# Altium integrated library Xilinx PLD XC9500XL.IntLib: 85 symbols (part 3 of 5)
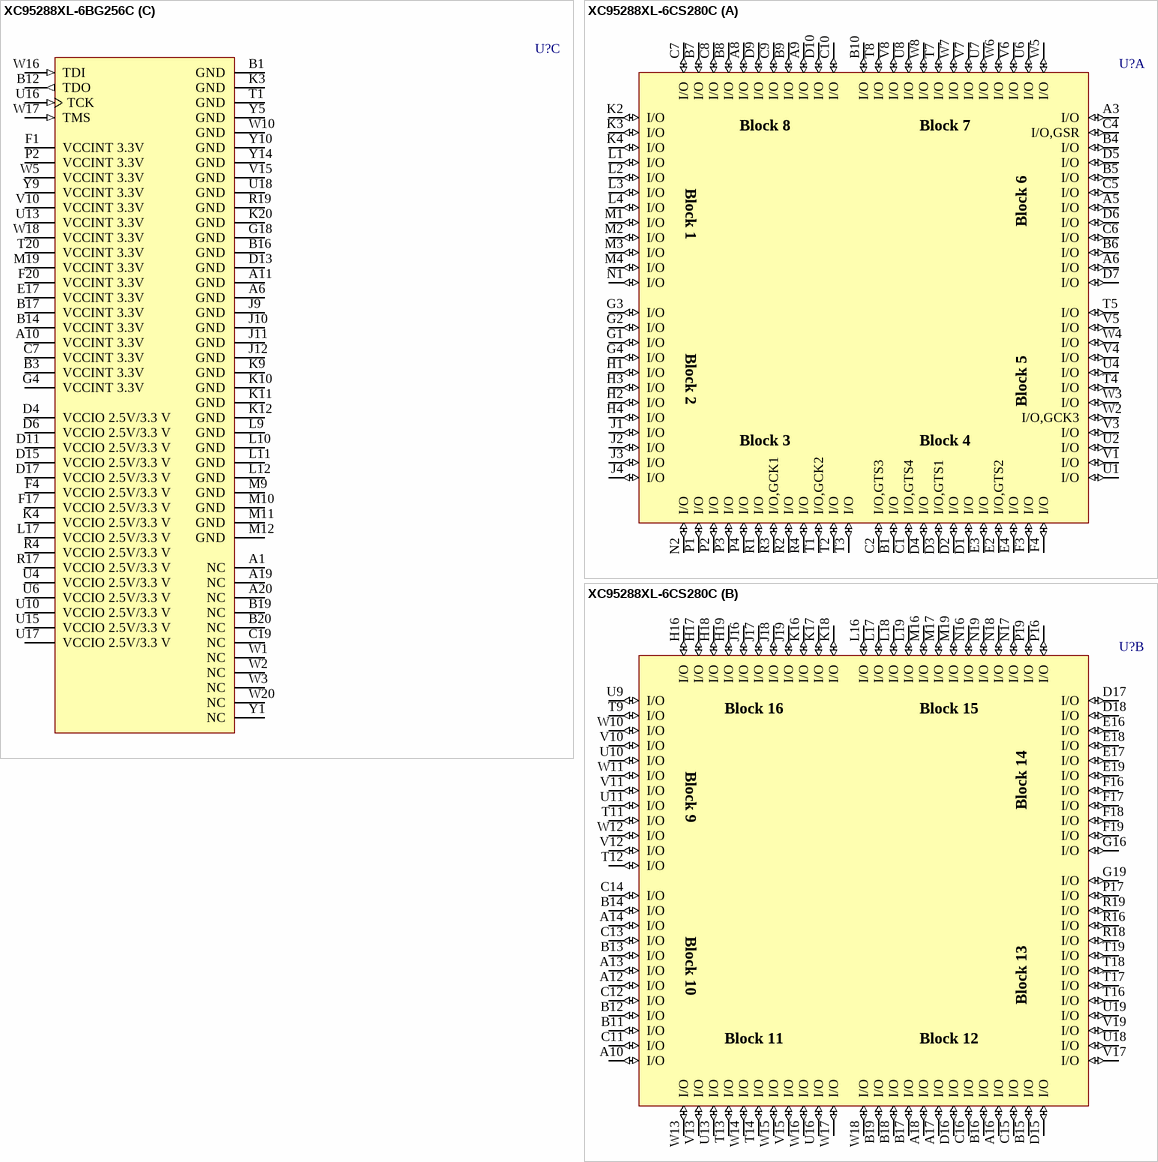
[diagram p35: symbols XC95288XL-6BG256C to XC95288XL-6CS280C]

## XC95288XL-6BG256C
designator U?
FastFLASH XC900XL, 3.3V High-Performance CPLD with 288 Macrocells, 256-Ball BGA, Commercial Grade; PackageDocument: ver1.1, Apr-2001; Note: BGA package contains 16 extra balls (Grounded); Published: 17-Jul-2002; DatasheetDocument: ver1.7, Aug-2003; PackageReference: BG256TE; Publisher: Altium Limited
footprint BG256TE (272-Ball Plastic Ball Grid Array (Thermally Enhanced BG256))
3D model XC95288XL-BG256TE (272-Ball Plastic Ball Grid Array (Thermally Enhanced BG256))
signal-integrity model XC95288XL_BG256 (XC9500XL)
part A pins: A2 I/O,GSR (io), A3 I/O (io), A4 I/O (io), A5 I/O (io), A7 I/O (io), A8 I/O (io), A9 I/O (io), B2 I/O (io), B4 I/O (io), B5 I/O (io), B6 I/O (io), B7 I/O (io), B8 I/O (io), B9 I/O (io), C1 I/O,GTS1 (io), C2 I/O,GTS3 (io), C3 I/O (io), C4 I/O (io), C5 I/O (io), C6 I/O (io), C8 I/O (io), C9 I/O (io), D1 I/O (io), D2 I/O (io), D3 I/O,GTS4 (io), D5 I/O (io), D7 I/O (io), D8 I/O (io), D9 I/O (io), E1 I/O,GTS2 (io), E2 I/O (io), E3 I/O (io), E4 I/O (io), F2 I/O (io), F3 I/O (io), G1 I/O (io), G2 I/O (io), G3 I/O (io), H1 I/O (io), H2 I/O (io), H3 I/O (io), H4 I/O (io), J1 I/O (io), J2 I/O (io), J3 I/O (io), J4 I/O (io), K1 I/O (io), K2 I/O (io), L1 I/O (io), L2 I/O (io), L3 I/O (io), L4 I/O (io), M1 I/O (io), M2 I/O (io), M3 I/O (io), M4 I/O (io), N1 I/O (io), N2 I/O (io), N3 I/O (io), N4 I/O (io), P1 I/O (io), P3 I/O (io), P4 I/O (io), R1 I/O (io), R2 I/O (io), R3 I/O (io), T2 I/O,GCK1 (io), T3 I/O (io), T4 I/O (io), U1 I/O (io), U2 I/O,GCK2 (io), U3 I/O (io), U5 I/O (io), U7 I/O (io), U8 I/O (io), U9 I/O (io), V1 I/O (io), V2 I/O (io), V3 I/O (io), V4 I/O (io), V5 I/O (io), V6 I/O (io), V7 I/O (io), V8 I/O (io), V9 I/O (io), W4 I/O,GCK3 (io), W6 I/O (io), W7 I/O (io), W8 I/O (io), W9 I/O (io), Y2 I/O (io), Y3 I/O (io), Y4 I/O (io), Y6 I/O (io), Y7 I/O (io), Y8 I/O (io)
part B pins: A12 I/O (io), A13 I/O (io), A14 I/O (io), A15 I/O (io), A16 I/O (io), A17 I/O (io), A18 I/O (io), B10 I/O (io), B11 I/O (io), B13 I/O (io), B15 I/O (io), B18 I/O (io), C10 I/O (io), C11 I/O (io), C12 I/O (io), C13 I/O (io), C14 I/O (io), C15 I/O (io), C16 I/O (io), C17 I/O (io), C18 I/O (io), C20 I/O (io), D10 I/O (io), D12 I/O (io), D14 I/O (io), D16 I/O (io), D18 I/O (io), D19 I/O (io), D20 I/O (io), E18 I/O (io), E19 I/O (io), E20 I/O (io), F18 I/O (io), F19 I/O (io), G17 I/O (io), G19 I/O (io), G20 I/O (io), H17 I/O (io), H18 I/O (io), H19 I/O (io), H20 I/O (io), J17 I/O (io), J18 I/O (io), J19 I/O (io), J20 I/O (io), K17 I/O (io), K18 I/O (io), K19 I/O (io), L18 I/O (io), L19 I/O (io), L20 I/O (io), M17 I/O (io), M18 I/O (io), M20 I/O (io), N17 I/O (io), N18 I/O (io), N19 I/O (io), N20 I/O (io), P17 I/O (io), P18 I/O (io), P19 I/O (io), P20 I/O (io), R18 I/O (io), R20 I/O (io), T17 I/O (io), T18 I/O (io), T19 I/O (io), U11 I/O (io), U12 I/O (io), U14 I/O (io), U19 I/O (io), U20 I/O (io), V11 I/O (io), V12 I/O (io), V13 I/O (io), V14 I/O (io), V16 I/O (io), V17 I/O (io), V18 I/O (io), V19 I/O (io), V20 I/O (io), W11 I/O (io), W12 I/O (io), W13 I/O (io), W14 I/O (io), W15 I/O (io), W19 I/O (io), Y11 I/O (io), Y12 I/O (io), Y13 I/O (io), Y15 I/O (io), Y16 I/O (io), Y17 I/O (io), Y18 I/O (io), Y19 I/O (io), Y20 I/O (io)
part C pins: A1 NC, A6 GND (power), A10 VCCINT 3.3V (power), A11 GND (power), A19 NC, A20 NC, B1 GND (power), B3 VCCINT 3.3V (power), B12 TDO (out), B14 VCCINT 3.3V (power), B16 GND (power), B17 VCCINT 3.3V (power), B19 NC, B20 NC, C7 VCCINT 3.3V (power), C19 NC, D4 VCCIO 2.5V/3.3 V (power), D6 VCCIO 2.5V/3.3 V (power), D11 VCCIO 2.5V/3.3 V (power), D13 GND (power), D15 VCCIO 2.5V/3.3 V (power), D17 VCCIO 2.5V/3.3 V (power), E17 VCCINT 3.3V (power), F1 VCCINT 3.3V (power), F4 VCCIO 2.5V/3.3 V (power), F17 VCCIO 2.5V/3.3 V (power), F20 VCCINT 3.3V (power), G4 VCCINT 3.3V (power), G18 GND (power), J9 GND (power), J10 GND (power), J11 GND (power), J12 GND (power), K3 GND (power), K4 VCCIO 2.5V/3.3 V (power), K9 GND (power), K10 GND (power), K11 GND (power), K12 GND (power), K20 GND (power), L9 GND (power), L10 GND (power), L11 GND (power), L12 GND (power), L17 VCCIO 2.5V/3.3 V (power), M9 GND (power), M10 GND (power), M11 GND (power), M12 GND (power), M19 VCCINT 3.3V (power), P2 VCCINT 3.3V (power), R4 VCCIO 2.5V/3.3 V (power), R17 VCCIO 2.5V/3.3 V (power), R19 GND (power), T1 GND (power), T20 VCCINT 3.3V (power), U4 VCCIO 2.5V/3.3 V (power), U6 VCCIO 2.5V/3.3 V (power), U10 VCCIO 2.5V/3.3 V (power), U13 VCCINT 3.3V (power), U15 VCCIO 2.5V/3.3 V (power), U16 TCK (in), U17 VCCIO 2.5V/3.3 V (power), U18 GND (power), V10 VCCINT 3.3V (power), V15 GND (power), W1 NC, W2 NC, W3 NC, W5 VCCINT 3.3V (power), W10 GND (power), W16 TDI (in), W17 TMS (in), W18 VCCINT 3.3V (power), W20 NC, Y1 NC, Y5 GND (power), Y9 VCCINT 3.3V (power), Y10 GND (power), Y14 GND (power)
part A text: Block 8; Block 7; Block 1; Block 6; Block 2; Block 5; Block 3; Block 4
part B text: Block 16; Block 15; Block 9; Block 14; Block 10; Block 13; Block 11; Block 12

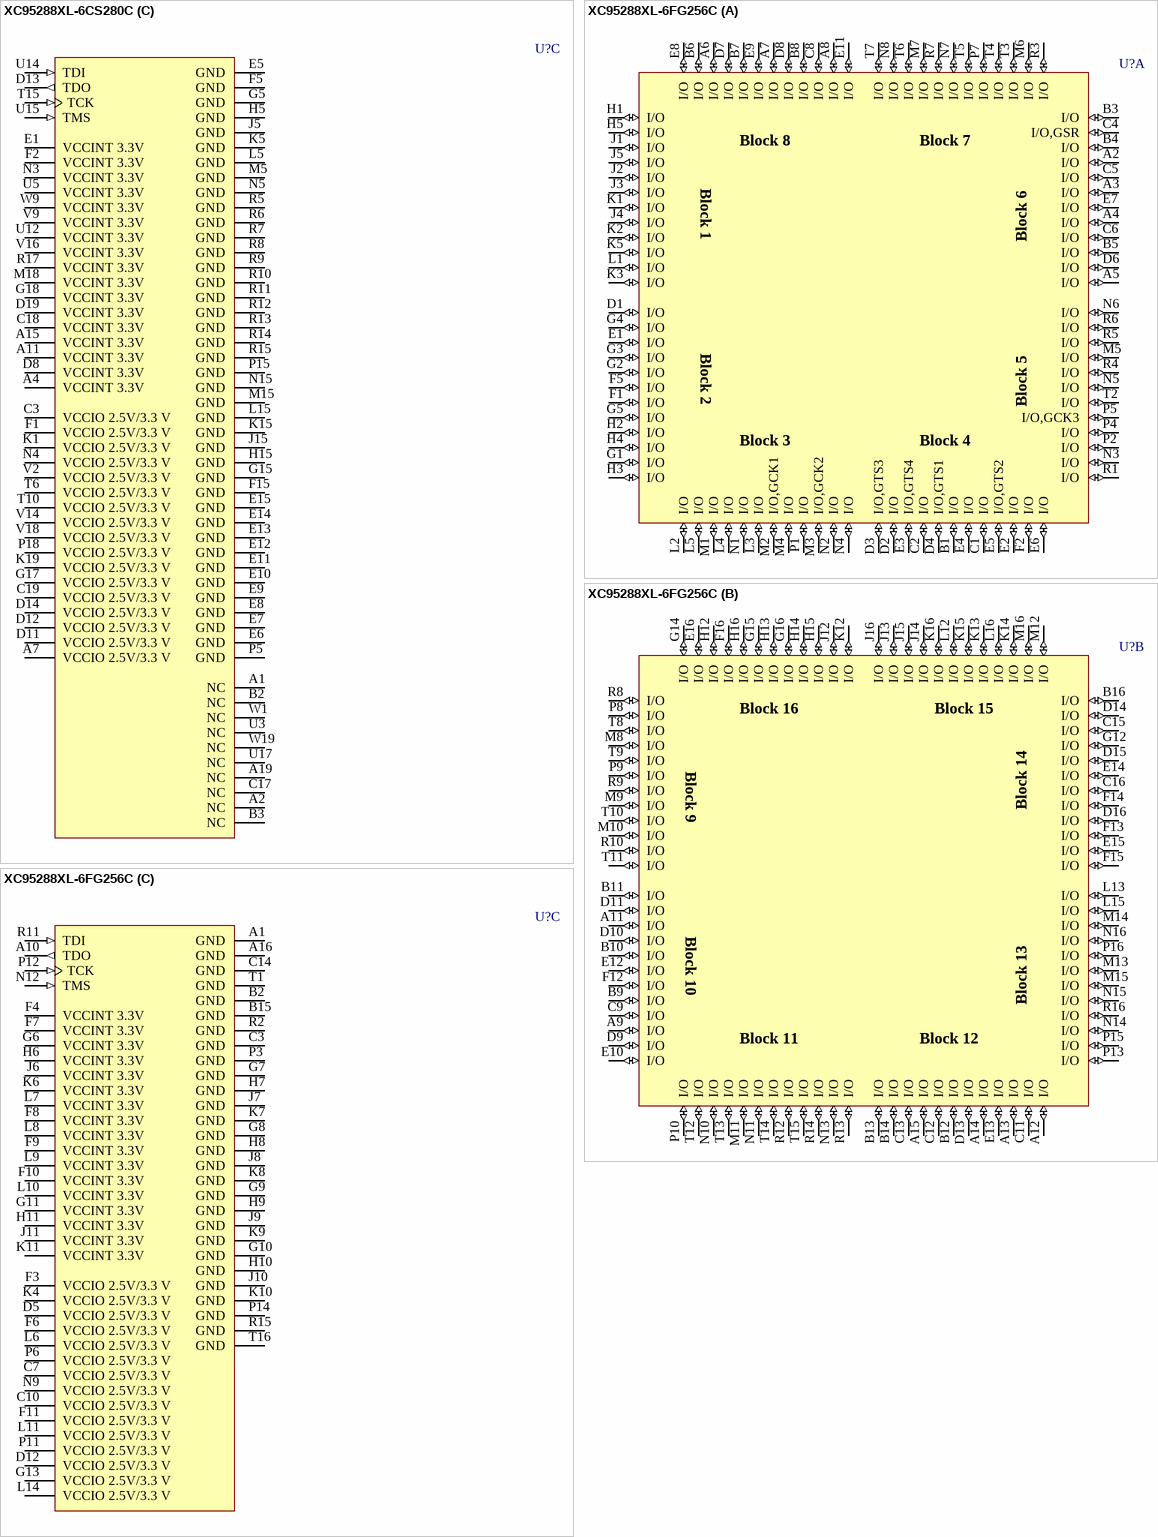
[diagram p17: symbols XC95288XL-6CS280C to XC95288XL-6FG256C]

## XC95288XL-6CS280C
designator U?
FastFLASH XC900XL, 3.3V High-Performance CPLD with 288 Macrocells, 280-Ball CSBGA, Commercial Grade; PackageDocument: ver1.0, Jun-2000; Published: 17-Jul-2002; LatestRevisionDate: 17-Sep-2003; LatestRevisionNote: PCB Footprint pad diameter reduced to 0.4mm; DatasheetDocument: ver1.7, Aug-2003; PackageReference: CS280; Publisher: Altium Limited; Code_JEDEC: MO-216-BAL-1 (Depopulated)
footprint CS280 (280-Ball Chip Scale Ball Grid Array (CS280))
3D model XC95288XL-CS280 (280-Ball Chip Scale Ball Grid Array (CS280))
signal-integrity model XC95288XL_CS280 (XC9500XL)
part A pins: A3 I/O (io), A5 I/O (io), A6 I/O (io), A8 I/O (io), A9 I/O (io), B1 I/O (io), B4 I/O (io), B5 I/O (io), B6 I/O (io), B7 I/O (io), B8 I/O (io), B9 I/O (io), B10 I/O (io), C1 I/O,GTS4 (io), C2 I/O,GTS3 (io), C4 I/O,GSR (io), C5 I/O (io), C6 I/O (io), C7 I/O (io), C8 I/O (io), C9 I/O (io), C10 I/O (io), D1 I/O (io), D2 I/O (io), D3 I/O,GTS1 (io), D4 I/O (io), D5 I/O (io), D6 I/O (io), D7 I/O (io), D9 I/O (io), D10 I/O (io), E2 I/O,GTS2 (io), E3 I/O (io), E4 I/O (io), F3 I/O (io), F4 I/O (io), G1 I/O (io), G2 I/O (io), G3 I/O (io), G4 I/O (io), H1 I/O (io), H2 I/O (io), H3 I/O (io), H4 I/O (io), J1 I/O (io), J2 I/O (io), J3 I/O (io), J4 I/O (io), K2 I/O (io), K3 I/O (io), K4 I/O (io), L1 I/O (io), L2 I/O (io), L3 I/O (io), L4 I/O (io), M1 I/O (io), M2 I/O (io), M3 I/O (io), M4 I/O (io), N1 I/O (io), N2 I/O (io), P1 I/O (io), P2 I/O (io), P3 I/O (io), P4 I/O (io), R1 I/O (io), R2 I/O (io), R3 I/O,GCK1 (io), R4 I/O (io), T1 I/O,GCK2 (io), T2 I/O (io), T3 I/O (io), T4 I/O (io), T5 I/O (io), T7 I/O (io), T8 I/O (io), U1 I/O (io), U2 I/O (io), U4 I/O (io), U6 I/O (io), U7 I/O (io), U8 I/O (io), V1 I/O (io), V3 I/O (io), V4 I/O (io), V5 I/O (io), V6 I/O (io), V7 I/O (io), V8 I/O (io), W2 I/O,GCK3 (io), W3 I/O (io), W4 I/O (io), W5 I/O (io), W6 I/O (io), W7 I/O (io), W8 I/O (io)
part B pins: A10 I/O (io), A12 I/O (io), A13 I/O (io), A14 I/O (io), A16 I/O (io), A17 I/O (io), A18 I/O (io), B11 I/O (io), B12 I/O (io), B13 I/O (io), B14 I/O (io), B15 I/O (io), B16 I/O (io), B17 I/O (io), B18 I/O (io), B19 I/O (io), C11 I/O (io), C12 I/O (io), C13 I/O (io), C14 I/O (io), C15 I/O (io), C16 I/O (io), D15 I/O (io), D16 I/O (io), D17 I/O (io), D18 I/O (io), E16 I/O (io), E17 I/O (io), E18 I/O (io), E19 I/O (io), F16 I/O (io), F17 I/O (io), F18 I/O (io), F19 I/O (io), G16 I/O (io), G19 I/O (io), H16 I/O (io), H17 I/O (io), H18 I/O (io), H19 I/O (io), J16 I/O (io), J17 I/O (io), J18 I/O (io), J19 I/O (io), K16 I/O (io), K17 I/O (io), K18 I/O (io), L16 I/O (io), L17 I/O (io), L18 I/O (io), L19 I/O (io), M16 I/O (io), M17 I/O (io), M19 I/O (io), N16 I/O (io), N17 I/O (io), N18 I/O (io), N19 I/O (io), P16 I/O (io), P17 I/O (io), P19 I/O (io), R16 I/O (io), R18 I/O (io), R19 I/O (io), T9 I/O (io), T11 I/O (io), T12 I/O (io), T13 I/O (io), T14 I/O (io), T16 I/O (io), T17 I/O (io), T18 I/O (io), T19 I/O (io), U9 I/O (io), U10 I/O (io), U11 I/O (io), U13 I/O (io), U16 I/O (io), U18 I/O (io), U19 I/O (io), V10 I/O (io), V11 I/O (io), V12 I/O (io), V13 I/O (io), V15 I/O (io), V17 I/O (io), V19 I/O (io), W10 I/O (io), W11 I/O (io), W12 I/O (io), W13 I/O (io), W14 I/O (io), W15 I/O (io), W16 I/O (io), W17 I/O (io), W18 I/O (io)
part C pins: A1 NC, A2 NC, A4 VCCINT 3.3V (power), A7 VCCIO 2.5V/3.3 V (power), A11 VCCINT 3.3V (power), A15 VCCINT 3.3V (power), A19 NC, B2 NC, B3 NC, C3 VCCIO 2.5V/3.3 V (power), C17 NC, C18 VCCINT 3.3V (power), C19 VCCIO 2.5V/3.3 V (power), D8 VCCINT 3.3V (power), D11 VCCIO 2.5V/3.3 V (power), D12 VCCIO 2.5V/3.3 V (power), D13 TDO (out), D14 VCCIO 2.5V/3.3 V (power), D19 VCCINT 3.3V (power), E1 VCCINT 3.3V (power), E5 GND (power), E6 GND (power), E7 GND (power), E8 GND (power), E9 GND (power), E10 GND (power), E11 GND (power), E12 GND (power), E13 GND (power), E14 GND (power), E15 GND (power), F1 VCCIO 2.5V/3.3 V (power), F2 VCCINT 3.3V (power), F5 GND (power), F15 GND (power), G5 GND (power), G15 GND (power), G17 VCCIO 2.5V/3.3 V (power), G18 VCCINT 3.3V (power), H5 GND (power), H15 GND (power), J5 GND (power), J15 GND (power), K1 VCCIO 2.5V/3.3 V (power), K5 GND (power), K15 GND (power), K19 VCCIO 2.5V/3.3 V (power), L5 GND (power), L15 GND (power), M5 GND (power), M15 GND (power), M18 VCCINT 3.3V (power), N3 VCCINT 3.3V (power), N4 VCCIO 2.5V/3.3 V (power), N5 GND (power), N15 GND (power), P5 GND (power), P15 GND (power), P18 VCCIO 2.5V/3.3 V (power), R5 GND (power), R6 GND (power), R7 GND (power), R8 GND (power), R9 GND (power), R10 GND (power), R11 GND (power), R12 GND (power), R13 GND (power), R14 GND (power), R15 GND (power), R17 VCCINT 3.3V (power), T6 VCCIO 2.5V/3.3 V (power), T10 VCCIO 2.5V/3.3 V (power), T15 TCK (in), U3 NC, U5 VCCINT 3.3V (power), U12 VCCINT 3.3V (power), U14 TDI (in), U15 TMS (in), U17 NC, V2 VCCIO 2.5V/3.3 V (power), V9 VCCINT 3.3V (power), V14 VCCIO 2.5V/3.3 V (power), V16 VCCINT 3.3V (power), V18 VCCIO 2.5V/3.3 V (power), W1 NC, W9 VCCINT 3.3V (power), W19 NC
part A text: Block 8; Block 7; Block 1; Block 6; Block 2; Block 5; Block 3; Block 4
part B text: Block 16; Block 15; Block 9; Block 14; Block 10; Block 13; Block 11; Block 12

## XC95288XL-6FG256C
designator U?
FastFLASH XC900XL, 3.3V High-Performance CPLD with 288 Macrocells, 256-Ball FBGA, Commercial Grade; PackageDocument: ver1.1, Apr-2001; Published: 17-Jul-2002; DatasheetDocument: ver1.7, Aug-2003; PackageReference: FG256; Publisher: Altium Limited; Code_JEDEC: MO-151-AAF-1; Code_IPC: PBGA 17X17 FE256
footprint FG256 (256-Ball Fine Pitch Ball Grid Array (FG256))
3D model XC95288XL-FG256 (256-Ball Fine Pitch Ball Grid Array (FG256))
signal-integrity model XC95288XL_FG256 (XC9500XL)
part A pins: A2 I/O (io), A3 I/O (io), A4 I/O (io), A5 I/O (io), A6 I/O (io), A7 I/O (io), A8 I/O (io), B1 I/O (io), B3 I/O (io), B4 I/O (io), B5 I/O (io), B6 I/O (io), B7 I/O (io), B8 I/O (io), C1 I/O (io), C2 I/O (io), C4 I/O,GSR (io), C5 I/O (io), C6 I/O (io), C8 I/O (io), D1 I/O (io), D2 I/O (io), D3 I/O,GTS3 (io), D4 I/O,GTS1 (io), D6 I/O (io), D7 I/O (io), D8 I/O (io), E1 I/O (io), E2 I/O (io), E3 I/O,GTS4 (io), E4 I/O (io), E5 I/O,GTS2 (io), E6 I/O (io), E7 I/O (io), E8 I/O (io), E9 I/O (io), E11 I/O (io), F1 I/O (io), F2 I/O (io), F5 I/O (io), G1 I/O (io), G2 I/O (io), G3 I/O (io), G4 I/O (io), G5 I/O (io), H1 I/O (io), H2 I/O (io), H3 I/O (io), H4 I/O (io), H5 I/O (io), J1 I/O (io), J2 I/O (io), J3 I/O (io), J4 I/O (io), J5 I/O (io), K1 I/O (io), K2 I/O (io), K3 I/O (io), K5 I/O (io), L1 I/O (io), L2 I/O (io), L3 I/O (io), L4 I/O (io), L5 I/O (io), M1 I/O (io), M2 I/O,GCK1 (io), M3 I/O,GCK2 (io), M4 I/O (io), M5 I/O (io), M6 I/O (io), M7 I/O (io), N1 I/O (io), N2 I/O (io), N3 I/O (io), N4 I/O (io), N5 I/O (io), N6 I/O (io), N7 I/O (io), N8 I/O (io), P1 I/O (io), P2 I/O (io), P4 I/O (io), P5 I/O,GCK3 (io), P7 I/O (io), R1 I/O (io), R3 I/O (io), R4 I/O (io), R5 I/O (io), R6 I/O (io), R7 I/O (io), T2 I/O (io), T3 I/O (io), T4 I/O (io), T5 I/O (io), T6 I/O (io), T7 I/O (io)
part B pins: A9 I/O (io), A11 I/O (io), A12 I/O (io), A13 I/O (io), A14 I/O (io), A15 I/O (io), B9 I/O (io), B10 I/O (io), B11 I/O (io), B12 I/O (io), B13 I/O (io), B14 I/O (io), B16 I/O (io), C9 I/O (io), C11 I/O (io), C12 I/O (io), C13 I/O (io), C15 I/O (io), C16 I/O (io), D9 I/O (io), D10 I/O (io), D11 I/O (io), D13 I/O (io), D14 I/O (io), D15 I/O (io), D16 I/O (io), E10 I/O (io), E12 I/O (io), E13 I/O (io), E14 I/O (io), E15 I/O (io), E16 I/O (io), F12 I/O (io), F13 I/O (io), F14 I/O (io), F15 I/O (io), F16 I/O (io), G12 I/O (io), G14 I/O (io), G15 I/O (io), G16 I/O (io), H12 I/O (io), H13 I/O (io), H14 I/O (io), H15 I/O (io), H16 I/O (io), J12 I/O (io), J13 I/O (io), J14 I/O (io), J15 I/O (io), J16 I/O (io), K12 I/O (io), K13 I/O (io), K14 I/O (io), K15 I/O (io), K16 I/O (io), L12 I/O (io), L13 I/O (io), L15 I/O (io), L16 I/O (io), M8 I/O (io), M9 I/O (io), M10 I/O (io), M11 I/O (io), M12 I/O (io), M13 I/O (io), M14 I/O (io), M15 I/O (io), M16 I/O (io), N10 I/O (io), N11 I/O (io), N13 I/O (io), N14 I/O (io), N15 I/O (io), N16 I/O (io), P8 I/O (io), P9 I/O (io), P10 I/O (io), P13 I/O (io), P15 I/O (io), P16 I/O (io), R8 I/O (io), R9 I/O (io), R10 I/O (io), R12 I/O (io), R13 I/O (io), R14 I/O (io), R16 I/O (io), T8 I/O (io), T9 I/O (io), T10 I/O (io), T11 I/O (io), T12 I/O (io), T13 I/O (io), T14 I/O (io), T15 I/O (io)
part C pins: A1 GND (power), A10 TDO (out), A16 GND (power), B2 GND (power), B15 GND (power), C3 GND (power), C7 VCCIO 2.5V/3.3 V (power), C10 VCCIO 2.5V/3.3 V (power), C14 GND (power), D5 VCCIO 2.5V/3.3 V (power), D12 VCCIO 2.5V/3.3 V (power), F3 VCCIO 2.5V/3.3 V (power), F4 VCCINT 3.3V (power), F6 VCCIO 2.5V/3.3 V (power), F7 VCCINT 3.3V (power), F8 VCCINT 3.3V (power), F9 VCCINT 3.3V (power), F10 VCCINT 3.3V (power), F11 VCCIO 2.5V/3.3 V (power), G6 VCCINT 3.3V (power), G7 GND (power), G8 GND (power), G9 GND (power), G10 GND (power), G11 VCCINT 3.3V (power), G13 VCCIO 2.5V/3.3 V (power), H6 VCCINT 3.3V (power), H7 GND (power), H8 GND (power), H9 GND (power), H10 GND (power), H11 VCCINT 3.3V (power), J6 VCCINT 3.3V (power), J7 GND (power), J8 GND (power), J9 GND (power), J10 GND (power), J11 VCCINT 3.3V (power), K4 VCCIO 2.5V/3.3 V (power), K6 VCCINT 3.3V (power), K7 GND (power), K8 GND (power), K9 GND (power), K10 GND (power), K11 VCCINT 3.3V (power), L6 VCCIO 2.5V/3.3 V (power), L7 VCCINT 3.3V (power), L8 VCCINT 3.3V (power), L9 VCCINT 3.3V (power), L10 VCCINT 3.3V (power), L11 VCCIO 2.5V/3.3 V (power), L14 VCCIO 2.5V/3.3 V (power), N9 VCCIO 2.5V/3.3 V (power), N12 TMS (in), P3 GND (power), P6 VCCIO 2.5V/3.3 V (power), P11 VCCIO 2.5V/3.3 V (power), P12 TCK (in), P14 GND (power), R2 GND (power), R11 TDI (in), R15 GND (power), T1 GND (power), T16 GND (power)
part A text: Block 8; Block 7; Block 1; Block 6; Block 2; Block 5; Block 3; Block 4
part B text: Block 16; Block 15; Block 9; Block 14; Block 10; Block 13; Block 11; Block 12

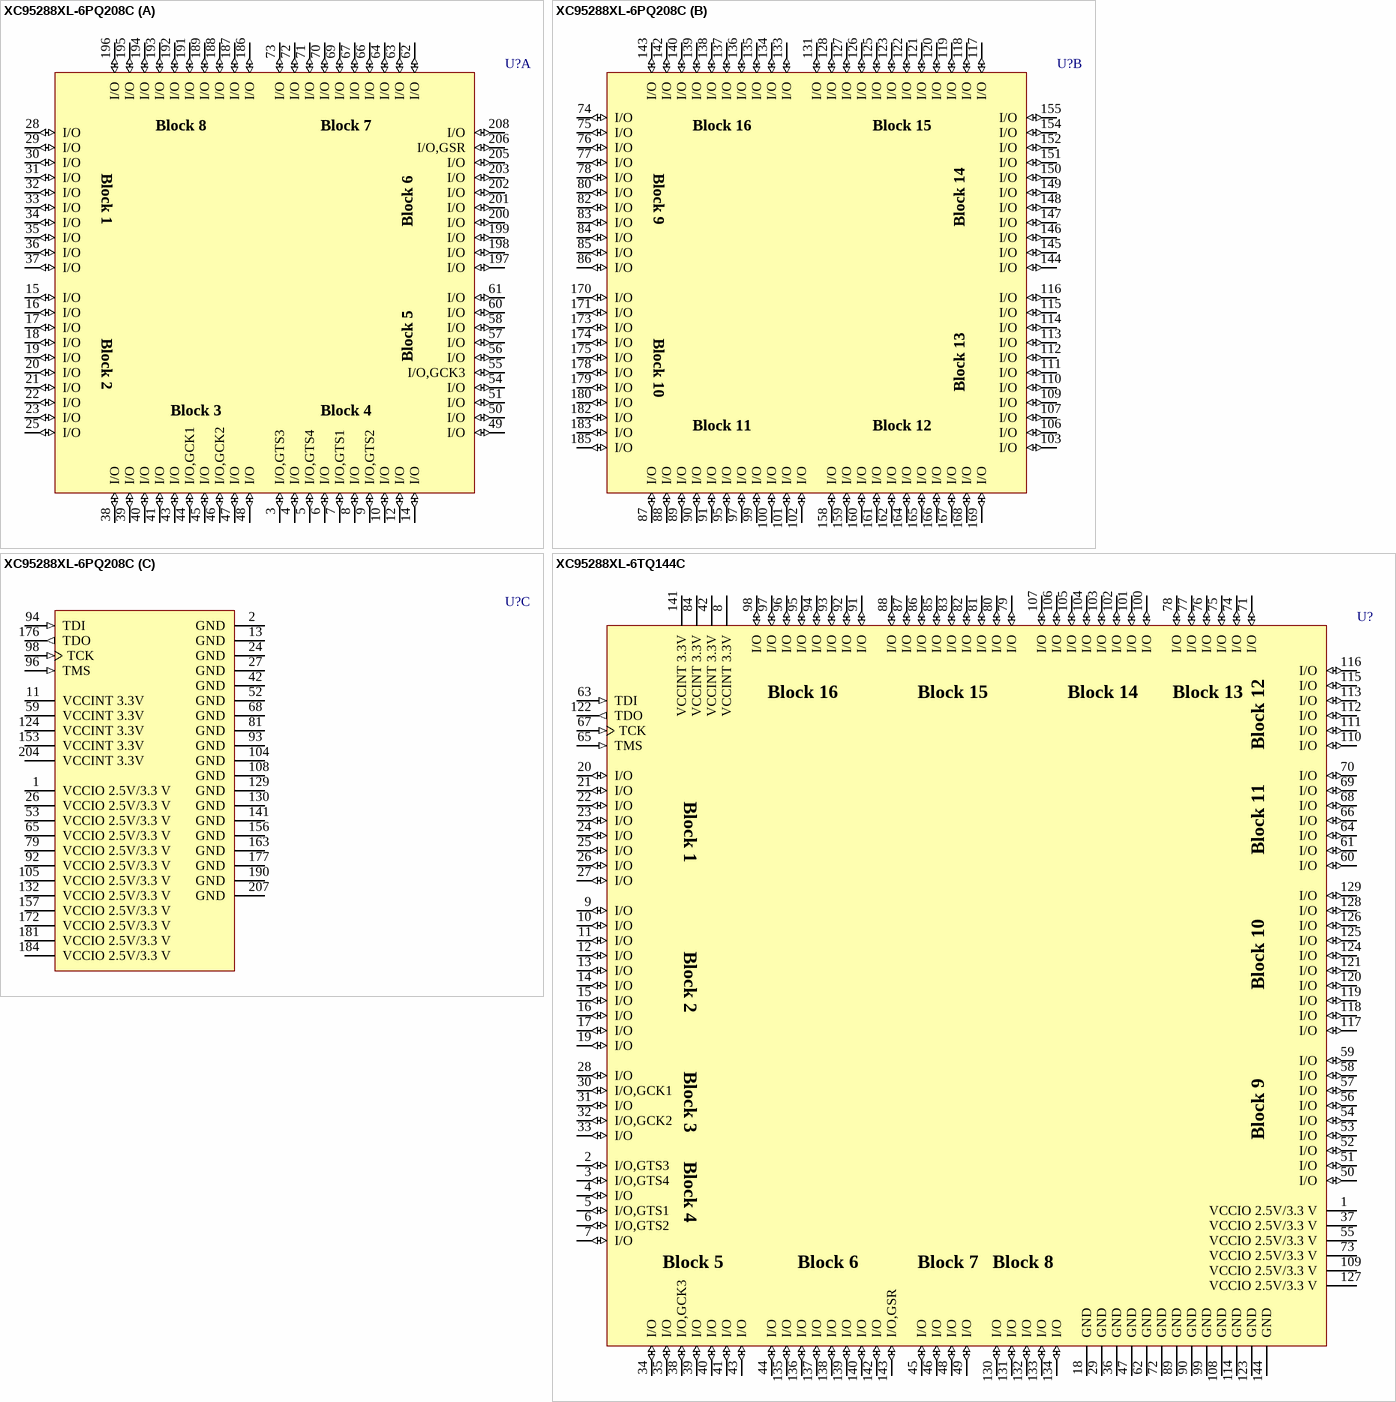
[diagram p18: symbols XC95288XL-6PQ208C to XC95288XL-6TQ144C]

## XC95288XL-6PQ208C
designator U?
FastFLASH XC900XL, 3.3V High-Performance CPLD with 288 Macrocells, 208-Pin PQFP, Commercial Grade; PackageDocument: ver1.1, Oct-2002; Published: 17-Jul-2002; DatasheetDocument: ver1.7, Aug-2003; PackageReference: PQ208; Publisher: Altium Limited; Code_JEDEC: MS-029-FA-1
footprint PQ208 (208-Pin Plastic Quad Flat Pack (PQ208))
3D model XC95288XL-PQ208 (208-Pin Plastic Quad Flat Pack (PQ208))
signal-integrity model XC95288XL_PQ208 (XC9500XL)
part A pins: 3 I/O,GTS3 (io), 4 I/O (io), 5 I/O,GTS4 (io), 6 I/O (io), 7 I/O,GTS1 (io), 8 I/O (io), 9 I/O,GTS2 (io), 10 I/O (io), 12 I/O (io), 14 I/O (io), 15 I/O (io), 16 I/O (io), 17 I/O (io), 18 I/O (io), 19 I/O (io), 20 I/O (io), 21 I/O (io), 22 I/O (io), 23 I/O (io), 25 I/O (io), 28 I/O (io), 29 I/O (io), 30 I/O (io), 31 I/O (io), 32 I/O (io), 33 I/O (io), 34 I/O (io), 35 I/O (io), 36 I/O (io), 37 I/O (io), 38 I/O (io), 39 I/O (io), 40 I/O (io), 41 I/O (io), 43 I/O (io), 44 I/O,GCK1 (io), 45 I/O (io), 46 I/O,GCK2 (io), 47 I/O (io), 48 I/O (io), 49 I/O (io), 50 I/O (io), 51 I/O (io), 54 I/O (io), 55 I/O,GCK3 (io), 56 I/O (io), 57 I/O (io), 58 I/O (io), 60 I/O (io), 61 I/O (io), 62 I/O (io), 63 I/O (io), 64 I/O (io), 66 I/O (io), 67 I/O (io), 69 I/O (io), 70 I/O (io), 71 I/O (io), 72 I/O (io), 73 I/O (io), 186 I/O (io), 187 I/O (io), 188 I/O (io), 189 I/O (io), 191 I/O (io), 192 I/O (io), 193 I/O (io), 194 I/O (io), 195 I/O (io), 196 I/O (io), 197 I/O (io), 198 I/O (io), 199 I/O (io), 200 I/O (io), 201 I/O (io), 202 I/O (io), 203 I/O (io), 205 I/O (io), 206 I/O,GSR (io), 208 I/O (io)
part B pins: 74 I/O (io), 75 I/O (io), 76 I/O (io), 77 I/O (io), 78 I/O (io), 80 I/O (io), 82 I/O (io), 83 I/O (io), 84 I/O (io), 85 I/O (io), 86 I/O (io), 87 I/O (io), 88 I/O (io), 89 I/O (io), 90 I/O (io), 91 I/O (io), 95 I/O (io), 97 I/O (io), 99 I/O (io), 100 I/O (io), 101 I/O (io), 102 I/O (io), 103 I/O (io), 106 I/O (io), 107 I/O (io), 109 I/O (io), 110 I/O (io), 111 I/O (io), 112 I/O (io), 113 I/O (io), 114 I/O (io), 115 I/O (io), 116 I/O (io), 117 I/O (io), 118 I/O (io), 119 I/O (io), 120 I/O (io), 121 I/O (io), 122 I/O (io), 123 I/O (io), 125 I/O (io), 126 I/O (io), 127 I/O (io), 128 I/O (io), 131 I/O (io), 133 I/O (io), 134 I/O (io), 135 I/O (io), 136 I/O (io), 137 I/O (io), 138 I/O (io), 139 I/O (io), 140 I/O (io), 142 I/O (io), 143 I/O (io), 144 I/O (io), 145 I/O (io), 146 I/O (io), 147 I/O (io), 148 I/O (io), 149 I/O (io), 150 I/O (io), 151 I/O (io), 152 I/O (io), 154 I/O (io), 155 I/O (io), 158 I/O (io), 159 I/O (io), 160 I/O (io), 161 I/O (io), 162 I/O (io), 164 I/O (io), 165 I/O (io), 166 I/O (io), 167 I/O (io), 168 I/O (io), 169 I/O (io), 170 I/O (io), 171 I/O (io), 173 I/O (io), 174 I/O (io), 175 I/O (io), 178 I/O (io), 179 I/O (io), 180 I/O (io), 182 I/O (io), 183 I/O (io), 185 I/O (io)
part C pins: 1 VCCIO 2.5V/3.3 V (power), 2 GND (power), 11 VCCINT 3.3V (power), 13 GND (power), 24 GND (power), 26 VCCIO 2.5V/3.3 V (power), 27 GND (power), 42 GND (power), 52 GND (power), 53 VCCIO 2.5V/3.3 V (power), 59 VCCINT 3.3V (power), 65 VCCIO 2.5V/3.3 V (power), 68 GND (power), 79 VCCIO 2.5V/3.3 V (power), 81 GND (power), 92 VCCIO 2.5V/3.3 V (power), 93 GND (power), 94 TDI (in), 96 TMS (in), 98 TCK (in), 104 GND (power), 105 VCCIO 2.5V/3.3 V (power), 108 GND (power), 124 VCCINT 3.3V (power), 129 GND (power), 130 GND (power), 132 VCCIO 2.5V/3.3 V (power), 141 GND (power), 153 VCCINT 3.3V (power), 156 GND (power), 157 VCCIO 2.5V/3.3 V (power), 163 GND (power), 172 VCCIO 2.5V/3.3 V (power), 176 TDO (out), 177 GND (power), 181 VCCIO 2.5V/3.3 V (power), 184 VCCIO 2.5V/3.3 V (power), 190 GND (power), 204 VCCINT 3.3V (power), 207 GND (power)
part A text: Block 8; Block 7; Block 1; Block 6; Block 2; Block 5; Block 3; Block 4
part B text: Block 16; Block 15; Block 9; Block 14; Block 10; Block 13; Block 11; Block 12

## XC95288XL-6TQ144C
designator U?
FastFLASH XC900XL, 3.3V High-Performance CPLD with 288 Macrocells, 144-Pin TQFP, Commercial Grade; PackageDocument: ver1.1, Oct-2002; Published: 17-Jul-2002; DatasheetDocument: ver1.7, Aug-2003; PackageReference: TQ144; Publisher: Altium Limited; Code_JEDEC: MS-026-BFB; Code_IPC: SQFP20X20-144
footprint TQ144 (144-Pin Thin Quad Flat Pack (TQ144))
3D model XC95288XL-TQ144 (144-Pin Thin Quad Flat Pack (TQ144))
signal-integrity model XC95288XL_TQ144 (XC9500XL)
pins: 1 VCCIO 2.5V/3.3 V (power), 2 I/O,GTS3 (io), 3 I/O,GTS4 (io), 4 I/O (io), 5 I/O,GTS1 (io), 6 I/O,GTS2 (io), 7 I/O (io), 8 VCCINT 3.3V (power), 9 I/O (io), 10 I/O (io), 11 I/O (io), 12 I/O (io), 13 I/O (io), 14 I/O (io), 15 I/O (io), 16 I/O (io), 17 I/O (io), 18 GND (power), 19 I/O (io), 20 I/O (io), 21 I/O (io), 22 I/O (io), 23 I/O (io), 24 I/O (io), 25 I/O (io), 26 I/O (io), 27 I/O (io), 28 I/O (io), 29 GND (power), 30 I/O,GCK1 (io), 31 I/O (io), 32 I/O,GCK2 (io), 33 I/O (io), 34 I/O (io), 35 I/O (io), 36 GND (power), 37 VCCIO 2.5V/3.3 V (power), 38 I/O,GCK3 (io), 39 I/O (io), 40 I/O (io), 41 I/O (io), 42 VCCINT 3.3V (power), 43 I/O (io), 44 I/O (io), 45 I/O (io), 46 I/O (io), 47 GND (power), 48 I/O (io), 49 I/O (io), 50 I/O (io), 51 I/O (io), 52 I/O (io), 53 I/O (io), 54 I/O (io), 55 VCCIO 2.5V/3.3 V (power), 56 I/O (io), 57 I/O (io), 58 I/O (io), 59 I/O (io), 60 I/O (io), 61 I/O (io), 62 GND (power), 63 TDI (in), 64 I/O (io), 65 TMS (in), 66 I/O (io), 67 TCK (in), 68 I/O (io), 69 I/O (io), 70 I/O (io), 71 I/O (io), 72 GND (power), 73 VCCIO 2.5V/3.3 V (power), 74 I/O (io), 75 I/O (io), 76 I/O (io), 77 I/O (io), 78 I/O (io), 79 I/O (io), 80 I/O (io), 81 I/O (io), 82 I/O (io), 83 I/O (io), 84 VCCINT 3.3V (power), 85 I/O (io), 86 I/O (io), 87 I/O (io), 88 I/O (io), 89 GND (power), 90 GND (power), 91 I/O (io), 92 I/O (io), 93 I/O (io), 94 I/O (io), 95 I/O (io), 96 I/O (io), 97 I/O (io), 98 I/O (io), 99 GND (power), 100 I/O (io), 101 I/O (io), 102 I/O (io), 103 I/O (io), 104 I/O (io), 105 I/O (io), 106 I/O (io), 107 I/O (io), 108 GND (power), 109 VCCIO 2.5V/3.3 V (power), 110 I/O (io), 111 I/O (io), 112 I/O (io), 113 I/O (io), 114 GND (power), 115 I/O (io), 116 I/O (io), 117 I/O (io), 118 I/O (io), 119 I/O (io), 120 I/O (io), 121 I/O (io), 122 TDO (out), 123 GND (power), 124 I/O (io), 125 I/O (io), 126 I/O (io), 127 VCCIO 2.5V/3.3 V (power), 128 I/O (io), 129 I/O (io), 130 I/O (io), 131 I/O (io), 132 I/O (io), 133 I/O (io), 134 I/O (io), 135 I/O (io), 136 I/O (io), 137 I/O (io), 138 I/O (io), 139 I/O (io), 140 I/O (io), 141 VCCINT 3.3V (power), 142 I/O (io), 143 I/O,GSR (io), 144 GND (power)
text: Block 16; Block 15; Block 14; Block 13; Block 12; Block 1; Block 11; Block 2; Block 10; Block 3; Block 9; Block 4; Block 5; Block 6; Block 7; Block 8

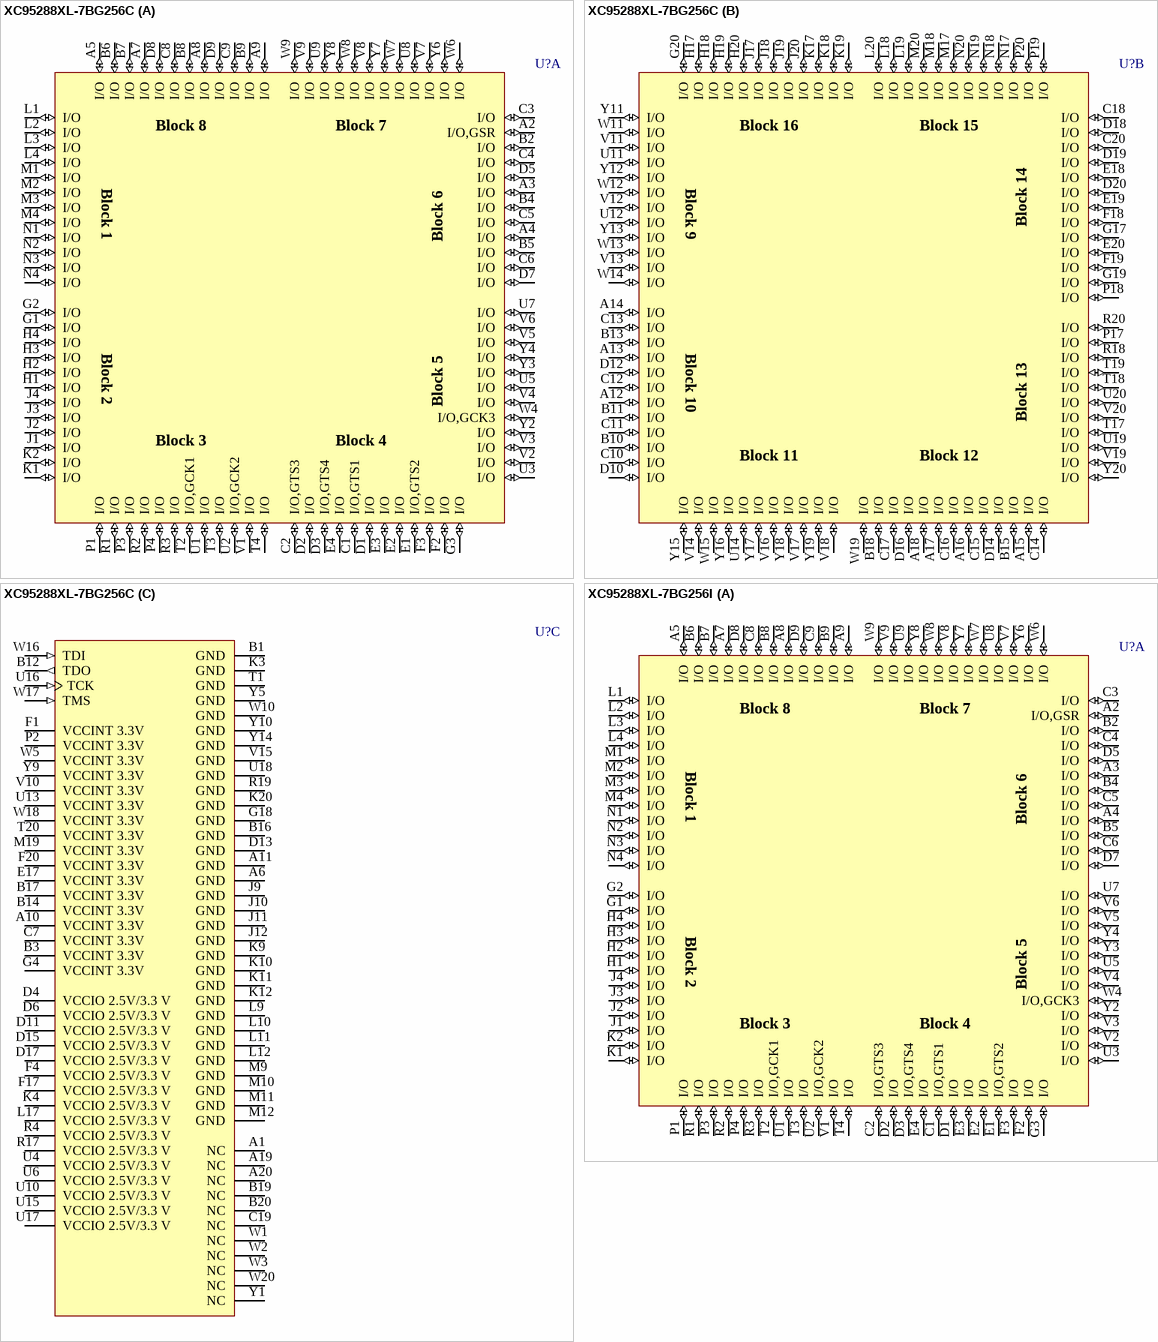
[diagram p19: symbols XC95288XL-7BG256C to XC95288XL-7BG256I]

## XC95288XL-7BG256C
designator U?
FastFLASH XC900XL, 3.3V High-Performance CPLD with 288 Macrocells, 256-Ball BGA, Commercial Grade; PackageDocument: ver1.1, Apr-2001; Note: BGA package contains 16 extra balls (Grounded); Published: 17-Jul-2002; DatasheetDocument: ver1.7, Aug-2003; PackageReference: BG256TE; Publisher: Altium Limited
footprint BG256TE (272-Ball Plastic Ball Grid Array (Thermally Enhanced BG256))
3D model XC95288XL-BG256TE (272-Ball Plastic Ball Grid Array (Thermally Enhanced BG256))
signal-integrity model XC95288XL_BG256 (XC9500XL)
part A pins: A2 I/O,GSR (io), A3 I/O (io), A4 I/O (io), A5 I/O (io), A7 I/O (io), A8 I/O (io), A9 I/O (io), B2 I/O (io), B4 I/O (io), B5 I/O (io), B6 I/O (io), B7 I/O (io), B8 I/O (io), B9 I/O (io), C1 I/O,GTS1 (io), C2 I/O,GTS3 (io), C3 I/O (io), C4 I/O (io), C5 I/O (io), C6 I/O (io), C8 I/O (io), C9 I/O (io), D1 I/O (io), D2 I/O (io), D3 I/O,GTS4 (io), D5 I/O (io), D7 I/O (io), D8 I/O (io), D9 I/O (io), E1 I/O,GTS2 (io), E2 I/O (io), E3 I/O (io), E4 I/O (io), F2 I/O (io), F3 I/O (io), G1 I/O (io), G2 I/O (io), G3 I/O (io), H1 I/O (io), H2 I/O (io), H3 I/O (io), H4 I/O (io), J1 I/O (io), J2 I/O (io), J3 I/O (io), J4 I/O (io), K1 I/O (io), K2 I/O (io), L1 I/O (io), L2 I/O (io), L3 I/O (io), L4 I/O (io), M1 I/O (io), M2 I/O (io), M3 I/O (io), M4 I/O (io), N1 I/O (io), N2 I/O (io), N3 I/O (io), N4 I/O (io), P1 I/O (io), P3 I/O (io), P4 I/O (io), R1 I/O (io), R2 I/O (io), R3 I/O (io), T2 I/O,GCK1 (io), T3 I/O (io), T4 I/O (io), U1 I/O (io), U2 I/O,GCK2 (io), U3 I/O (io), U5 I/O (io), U7 I/O (io), U8 I/O (io), U9 I/O (io), V1 I/O (io), V2 I/O (io), V3 I/O (io), V4 I/O (io), V5 I/O (io), V6 I/O (io), V7 I/O (io), V8 I/O (io), V9 I/O (io), W4 I/O,GCK3 (io), W6 I/O (io), W7 I/O (io), W8 I/O (io), W9 I/O (io), Y2 I/O (io), Y3 I/O (io), Y4 I/O (io), Y6 I/O (io), Y7 I/O (io), Y8 I/O (io)
part B pins: A12 I/O (io), A13 I/O (io), A14 I/O (io), A15 I/O (io), A16 I/O (io), A17 I/O (io), A18 I/O (io), B10 I/O (io), B11 I/O (io), B13 I/O (io), B15 I/O (io), B18 I/O (io), C10 I/O (io), C11 I/O (io), C12 I/O (io), C13 I/O (io), C14 I/O (io), C15 I/O (io), C16 I/O (io), C17 I/O (io), C18 I/O (io), C20 I/O (io), D10 I/O (io), D12 I/O (io), D14 I/O (io), D16 I/O (io), D18 I/O (io), D19 I/O (io), D20 I/O (io), E18 I/O (io), E19 I/O (io), E20 I/O (io), F18 I/O (io), F19 I/O (io), G17 I/O (io), G19 I/O (io), G20 I/O (io), H17 I/O (io), H18 I/O (io), H19 I/O (io), H20 I/O (io), J17 I/O (io), J18 I/O (io), J19 I/O (io), J20 I/O (io), K17 I/O (io), K18 I/O (io), K19 I/O (io), L18 I/O (io), L19 I/O (io), L20 I/O (io), M17 I/O (io), M18 I/O (io), M20 I/O (io), N17 I/O (io), N18 I/O (io), N19 I/O (io), N20 I/O (io), P17 I/O (io), P18 I/O (io), P19 I/O (io), P20 I/O (io), R18 I/O (io), R20 I/O (io), T17 I/O (io), T18 I/O (io), T19 I/O (io), U11 I/O (io), U12 I/O (io), U14 I/O (io), U19 I/O (io), U20 I/O (io), V11 I/O (io), V12 I/O (io), V13 I/O (io), V14 I/O (io), V16 I/O (io), V17 I/O (io), V18 I/O (io), V19 I/O (io), V20 I/O (io), W11 I/O (io), W12 I/O (io), W13 I/O (io), W14 I/O (io), W15 I/O (io), W19 I/O (io), Y11 I/O (io), Y12 I/O (io), Y13 I/O (io), Y15 I/O (io), Y16 I/O (io), Y17 I/O (io), Y18 I/O (io), Y19 I/O (io), Y20 I/O (io)
part C pins: A1 NC, A6 GND (power), A10 VCCINT 3.3V (power), A11 GND (power), A19 NC, A20 NC, B1 GND (power), B3 VCCINT 3.3V (power), B12 TDO (out), B14 VCCINT 3.3V (power), B16 GND (power), B17 VCCINT 3.3V (power), B19 NC, B20 NC, C7 VCCINT 3.3V (power), C19 NC, D4 VCCIO 2.5V/3.3 V (power), D6 VCCIO 2.5V/3.3 V (power), D11 VCCIO 2.5V/3.3 V (power), D13 GND (power), D15 VCCIO 2.5V/3.3 V (power), D17 VCCIO 2.5V/3.3 V (power), E17 VCCINT 3.3V (power), F1 VCCINT 3.3V (power), F4 VCCIO 2.5V/3.3 V (power), F17 VCCIO 2.5V/3.3 V (power), F20 VCCINT 3.3V (power), G4 VCCINT 3.3V (power), G18 GND (power), J9 GND (power), J10 GND (power), J11 GND (power), J12 GND (power), K3 GND (power), K4 VCCIO 2.5V/3.3 V (power), K9 GND (power), K10 GND (power), K11 GND (power), K12 GND (power), K20 GND (power), L9 GND (power), L10 GND (power), L11 GND (power), L12 GND (power), L17 VCCIO 2.5V/3.3 V (power), M9 GND (power), M10 GND (power), M11 GND (power), M12 GND (power), M19 VCCINT 3.3V (power), P2 VCCINT 3.3V (power), R4 VCCIO 2.5V/3.3 V (power), R17 VCCIO 2.5V/3.3 V (power), R19 GND (power), T1 GND (power), T20 VCCINT 3.3V (power), U4 VCCIO 2.5V/3.3 V (power), U6 VCCIO 2.5V/3.3 V (power), U10 VCCIO 2.5V/3.3 V (power), U13 VCCINT 3.3V (power), U15 VCCIO 2.5V/3.3 V (power), U16 TCK (in), U17 VCCIO 2.5V/3.3 V (power), U18 GND (power), V10 VCCINT 3.3V (power), V15 GND (power), W1 NC, W2 NC, W3 NC, W5 VCCINT 3.3V (power), W10 GND (power), W16 TDI (in), W17 TMS (in), W18 VCCINT 3.3V (power), W20 NC, Y1 NC, Y5 GND (power), Y9 VCCINT 3.3V (power), Y10 GND (power), Y14 GND (power)
part A text: Block 8; Block 7; Block 1; Block 6; Block 2; Block 5; Block 3; Block 4
part B text: Block 16; Block 15; Block 9; Block 14; Block 10; Block 13; Block 11; Block 12

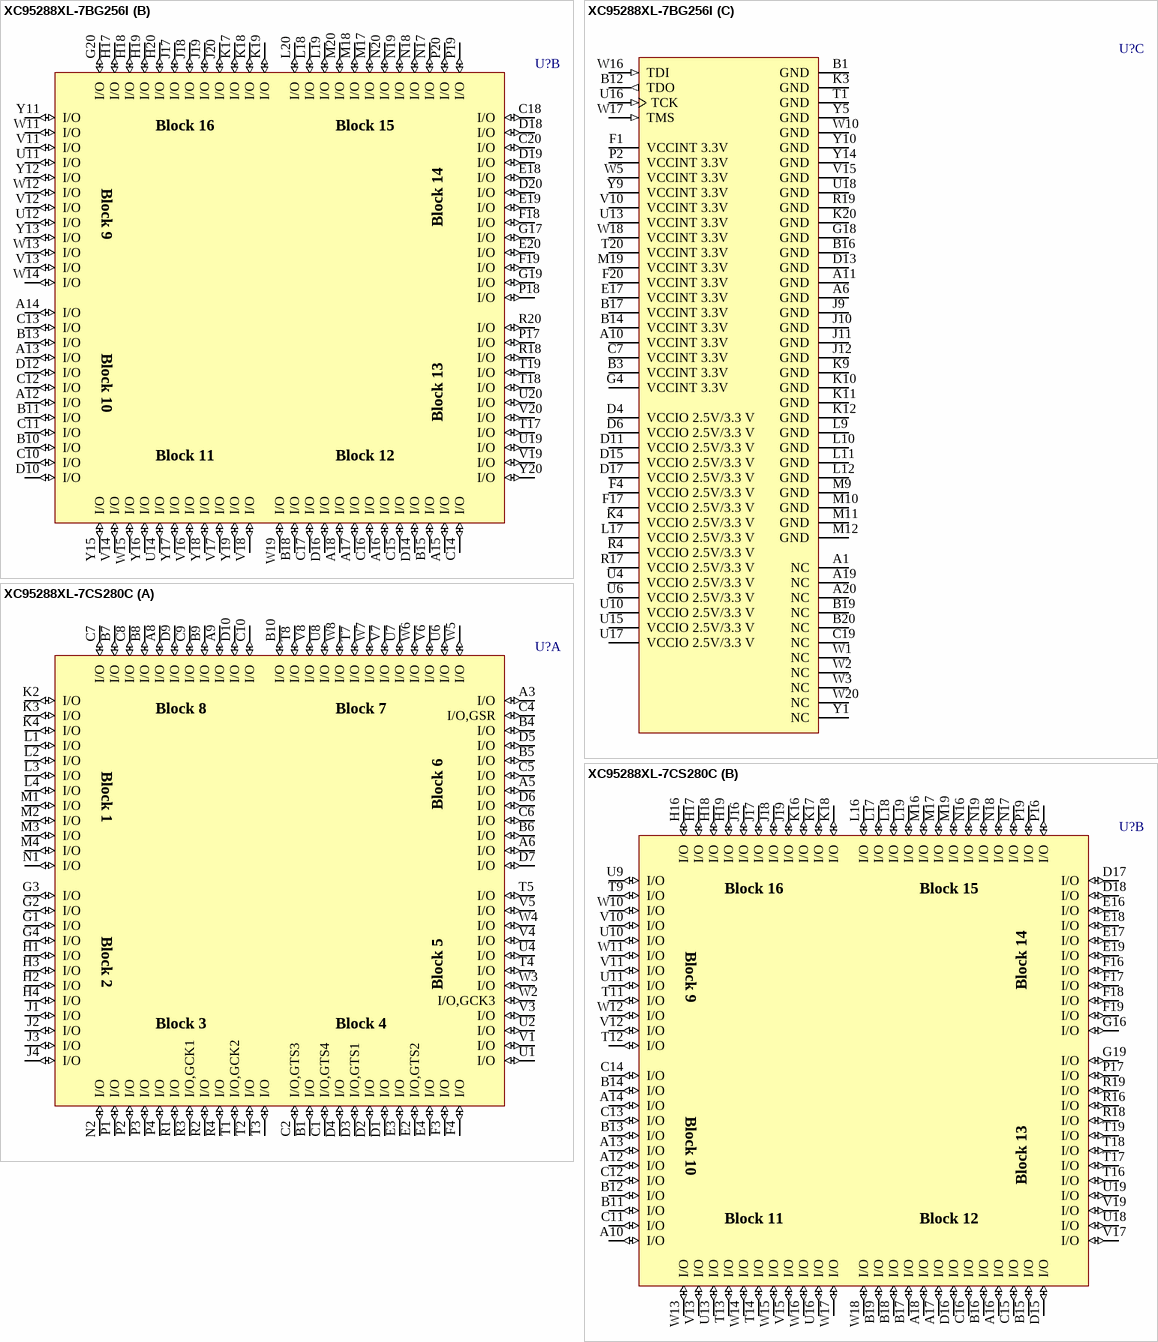
[diagram p20: symbols XC95288XL-7BG256I to XC95288XL-7CS280C]

## XC95288XL-7BG256I
designator U?
FastFLASH XC900XL, 3.3V High-Performance CPLD with 288 Macrocells, 256-Ball BGA, Industrial Grade; PackageDocument: ver1.1, Apr-2001; Note: BGA package contains 16 extra balls (Grounded); Published: 17-Sep-2003; DatasheetDocument: ver1.7, Aug-2003; PackageReference: BG256TE; Publisher: Altium Limited
footprint BG256TE (272-Ball Plastic Ball Grid Array (Thermally Enhanced BG256))
3D model XC95288XL-BG256TE (272-Ball Plastic Ball Grid Array (Thermally Enhanced BG256))
signal-integrity model XC95288XL_BG256 (XC9500XL)
part A pins: A2 I/O,GSR (io), A3 I/O (io), A4 I/O (io), A5 I/O (io), A7 I/O (io), A8 I/O (io), A9 I/O (io), B2 I/O (io), B4 I/O (io), B5 I/O (io), B6 I/O (io), B7 I/O (io), B8 I/O (io), B9 I/O (io), C1 I/O,GTS1 (io), C2 I/O,GTS3 (io), C3 I/O (io), C4 I/O (io), C5 I/O (io), C6 I/O (io), C8 I/O (io), C9 I/O (io), D1 I/O (io), D2 I/O (io), D3 I/O,GTS4 (io), D5 I/O (io), D7 I/O (io), D8 I/O (io), D9 I/O (io), E1 I/O,GTS2 (io), E2 I/O (io), E3 I/O (io), E4 I/O (io), F2 I/O (io), F3 I/O (io), G1 I/O (io), G2 I/O (io), G3 I/O (io), H1 I/O (io), H2 I/O (io), H3 I/O (io), H4 I/O (io), J1 I/O (io), J2 I/O (io), J3 I/O (io), J4 I/O (io), K1 I/O (io), K2 I/O (io), L1 I/O (io), L2 I/O (io), L3 I/O (io), L4 I/O (io), M1 I/O (io), M2 I/O (io), M3 I/O (io), M4 I/O (io), N1 I/O (io), N2 I/O (io), N3 I/O (io), N4 I/O (io), P1 I/O (io), P3 I/O (io), P4 I/O (io), R1 I/O (io), R2 I/O (io), R3 I/O (io), T2 I/O,GCK1 (io), T3 I/O (io), T4 I/O (io), U1 I/O (io), U2 I/O,GCK2 (io), U3 I/O (io), U5 I/O (io), U7 I/O (io), U8 I/O (io), U9 I/O (io), V1 I/O (io), V2 I/O (io), V3 I/O (io), V4 I/O (io), V5 I/O (io), V6 I/O (io), V7 I/O (io), V8 I/O (io), V9 I/O (io), W4 I/O,GCK3 (io), W6 I/O (io), W7 I/O (io), W8 I/O (io), W9 I/O (io), Y2 I/O (io), Y3 I/O (io), Y4 I/O (io), Y6 I/O (io), Y7 I/O (io), Y8 I/O (io)
part B pins: A12 I/O (io), A13 I/O (io), A14 I/O (io), A15 I/O (io), A16 I/O (io), A17 I/O (io), A18 I/O (io), B10 I/O (io), B11 I/O (io), B13 I/O (io), B15 I/O (io), B18 I/O (io), C10 I/O (io), C11 I/O (io), C12 I/O (io), C13 I/O (io), C14 I/O (io), C15 I/O (io), C16 I/O (io), C17 I/O (io), C18 I/O (io), C20 I/O (io), D10 I/O (io), D12 I/O (io), D14 I/O (io), D16 I/O (io), D18 I/O (io), D19 I/O (io), D20 I/O (io), E18 I/O (io), E19 I/O (io), E20 I/O (io), F18 I/O (io), F19 I/O (io), G17 I/O (io), G19 I/O (io), G20 I/O (io), H17 I/O (io), H18 I/O (io), H19 I/O (io), H20 I/O (io), J17 I/O (io), J18 I/O (io), J19 I/O (io), J20 I/O (io), K17 I/O (io), K18 I/O (io), K19 I/O (io), L18 I/O (io), L19 I/O (io), L20 I/O (io), M17 I/O (io), M18 I/O (io), M20 I/O (io), N17 I/O (io), N18 I/O (io), N19 I/O (io), N20 I/O (io), P17 I/O (io), P18 I/O (io), P19 I/O (io), P20 I/O (io), R18 I/O (io), R20 I/O (io), T17 I/O (io), T18 I/O (io), T19 I/O (io), U11 I/O (io), U12 I/O (io), U14 I/O (io), U19 I/O (io), U20 I/O (io), V11 I/O (io), V12 I/O (io), V13 I/O (io), V14 I/O (io), V16 I/O (io), V17 I/O (io), V18 I/O (io), V19 I/O (io), V20 I/O (io), W11 I/O (io), W12 I/O (io), W13 I/O (io), W14 I/O (io), W15 I/O (io), W19 I/O (io), Y11 I/O (io), Y12 I/O (io), Y13 I/O (io), Y15 I/O (io), Y16 I/O (io), Y17 I/O (io), Y18 I/O (io), Y19 I/O (io), Y20 I/O (io)
part C pins: A1 NC, A6 GND (power), A10 VCCINT 3.3V (power), A11 GND (power), A19 NC, A20 NC, B1 GND (power), B3 VCCINT 3.3V (power), B12 TDO (out), B14 VCCINT 3.3V (power), B16 GND (power), B17 VCCINT 3.3V (power), B19 NC, B20 NC, C7 VCCINT 3.3V (power), C19 NC, D4 VCCIO 2.5V/3.3 V (power), D6 VCCIO 2.5V/3.3 V (power), D11 VCCIO 2.5V/3.3 V (power), D13 GND (power), D15 VCCIO 2.5V/3.3 V (power), D17 VCCIO 2.5V/3.3 V (power), E17 VCCINT 3.3V (power), F1 VCCINT 3.3V (power), F4 VCCIO 2.5V/3.3 V (power), F17 VCCIO 2.5V/3.3 V (power), F20 VCCINT 3.3V (power), G4 VCCINT 3.3V (power), G18 GND (power), J9 GND (power), J10 GND (power), J11 GND (power), J12 GND (power), K3 GND (power), K4 VCCIO 2.5V/3.3 V (power), K9 GND (power), K10 GND (power), K11 GND (power), K12 GND (power), K20 GND (power), L9 GND (power), L10 GND (power), L11 GND (power), L12 GND (power), L17 VCCIO 2.5V/3.3 V (power), M9 GND (power), M10 GND (power), M11 GND (power), M12 GND (power), M19 VCCINT 3.3V (power), P2 VCCINT 3.3V (power), R4 VCCIO 2.5V/3.3 V (power), R17 VCCIO 2.5V/3.3 V (power), R19 GND (power), T1 GND (power), T20 VCCINT 3.3V (power), U4 VCCIO 2.5V/3.3 V (power), U6 VCCIO 2.5V/3.3 V (power), U10 VCCIO 2.5V/3.3 V (power), U13 VCCINT 3.3V (power), U15 VCCIO 2.5V/3.3 V (power), U16 TCK (in), U17 VCCIO 2.5V/3.3 V (power), U18 GND (power), V10 VCCINT 3.3V (power), V15 GND (power), W1 NC, W2 NC, W3 NC, W5 VCCINT 3.3V (power), W10 GND (power), W16 TDI (in), W17 TMS (in), W18 VCCINT 3.3V (power), W20 NC, Y1 NC, Y5 GND (power), Y9 VCCINT 3.3V (power), Y10 GND (power), Y14 GND (power)
part A text: Block 8; Block 7; Block 1; Block 6; Block 2; Block 5; Block 3; Block 4
part B text: Block 16; Block 15; Block 9; Block 14; Block 10; Block 13; Block 11; Block 12

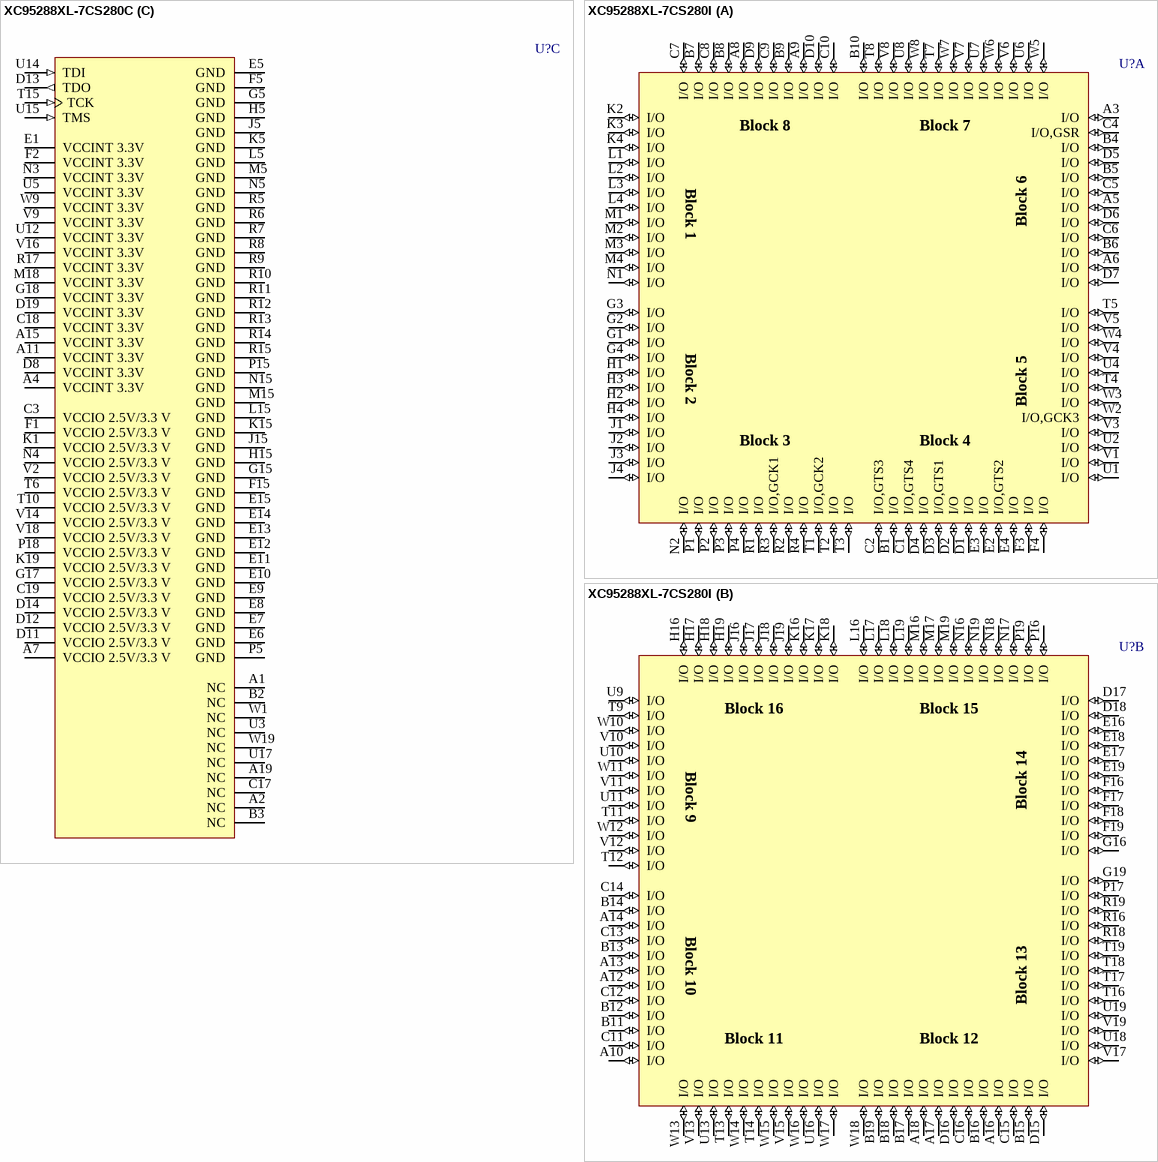
[diagram p21: symbols XC95288XL-7CS280C to XC95288XL-7CS280I]

## XC95288XL-7CS280C
designator U?
FastFLASH XC900XL, 3.3V High-Performance CPLD with 288 Macrocells, 280-Ball CSBGA, Commercial Grade; PackageDocument: ver1.0, Jun-2000; Published: 17-Jul-2002; LatestRevisionDate: 17-Sep-2003; LatestRevisionNote: PCB Footprint pad diameter reduced to 0.4mm; DatasheetDocument: ver1.7, Aug-2003; PackageReference: CS280; Publisher: Altium Limited; Code_JEDEC: MO-216-BAL-1 (Depopulated)
footprint CS280 (280-Ball Chip Scale Ball Grid Array (CS280))
3D model XC95288XL-CS280 (280-Ball Chip Scale Ball Grid Array (CS280))
signal-integrity model XC95288XL_CS280 (XC9500XL)
part A pins: A3 I/O (io), A5 I/O (io), A6 I/O (io), A8 I/O (io), A9 I/O (io), B1 I/O (io), B4 I/O (io), B5 I/O (io), B6 I/O (io), B7 I/O (io), B8 I/O (io), B9 I/O (io), B10 I/O (io), C1 I/O,GTS4 (io), C2 I/O,GTS3 (io), C4 I/O,GSR (io), C5 I/O (io), C6 I/O (io), C7 I/O (io), C8 I/O (io), C9 I/O (io), C10 I/O (io), D1 I/O (io), D2 I/O (io), D3 I/O,GTS1 (io), D4 I/O (io), D5 I/O (io), D6 I/O (io), D7 I/O (io), D9 I/O (io), D10 I/O (io), E2 I/O,GTS2 (io), E3 I/O (io), E4 I/O (io), F3 I/O (io), F4 I/O (io), G1 I/O (io), G2 I/O (io), G3 I/O (io), G4 I/O (io), H1 I/O (io), H2 I/O (io), H3 I/O (io), H4 I/O (io), J1 I/O (io), J2 I/O (io), J3 I/O (io), J4 I/O (io), K2 I/O (io), K3 I/O (io), K4 I/O (io), L1 I/O (io), L2 I/O (io), L3 I/O (io), L4 I/O (io), M1 I/O (io), M2 I/O (io), M3 I/O (io), M4 I/O (io), N1 I/O (io), N2 I/O (io), P1 I/O (io), P2 I/O (io), P3 I/O (io), P4 I/O (io), R1 I/O (io), R2 I/O (io), R3 I/O,GCK1 (io), R4 I/O (io), T1 I/O,GCK2 (io), T2 I/O (io), T3 I/O (io), T4 I/O (io), T5 I/O (io), T7 I/O (io), T8 I/O (io), U1 I/O (io), U2 I/O (io), U4 I/O (io), U6 I/O (io), U7 I/O (io), U8 I/O (io), V1 I/O (io), V3 I/O (io), V4 I/O (io), V5 I/O (io), V6 I/O (io), V7 I/O (io), V8 I/O (io), W2 I/O,GCK3 (io), W3 I/O (io), W4 I/O (io), W5 I/O (io), W6 I/O (io), W7 I/O (io), W8 I/O (io)
part B pins: A10 I/O (io), A12 I/O (io), A13 I/O (io), A14 I/O (io), A16 I/O (io), A17 I/O (io), A18 I/O (io), B11 I/O (io), B12 I/O (io), B13 I/O (io), B14 I/O (io), B15 I/O (io), B16 I/O (io), B17 I/O (io), B18 I/O (io), B19 I/O (io), C11 I/O (io), C12 I/O (io), C13 I/O (io), C14 I/O (io), C15 I/O (io), C16 I/O (io), D15 I/O (io), D16 I/O (io), D17 I/O (io), D18 I/O (io), E16 I/O (io), E17 I/O (io), E18 I/O (io), E19 I/O (io), F16 I/O (io), F17 I/O (io), F18 I/O (io), F19 I/O (io), G16 I/O (io), G19 I/O (io), H16 I/O (io), H17 I/O (io), H18 I/O (io), H19 I/O (io), J16 I/O (io), J17 I/O (io), J18 I/O (io), J19 I/O (io), K16 I/O (io), K17 I/O (io), K18 I/O (io), L16 I/O (io), L17 I/O (io), L18 I/O (io), L19 I/O (io), M16 I/O (io), M17 I/O (io), M19 I/O (io), N16 I/O (io), N17 I/O (io), N18 I/O (io), N19 I/O (io), P16 I/O (io), P17 I/O (io), P19 I/O (io), R16 I/O (io), R18 I/O (io), R19 I/O (io), T9 I/O (io), T11 I/O (io), T12 I/O (io), T13 I/O (io), T14 I/O (io), T16 I/O (io), T17 I/O (io), T18 I/O (io), T19 I/O (io), U9 I/O (io), U10 I/O (io), U11 I/O (io), U13 I/O (io), U16 I/O (io), U18 I/O (io), U19 I/O (io), V10 I/O (io), V11 I/O (io), V12 I/O (io), V13 I/O (io), V15 I/O (io), V17 I/O (io), V19 I/O (io), W10 I/O (io), W11 I/O (io), W12 I/O (io), W13 I/O (io), W14 I/O (io), W15 I/O (io), W16 I/O (io), W17 I/O (io), W18 I/O (io)
part C pins: A1 NC, A2 NC, A4 VCCINT 3.3V (power), A7 VCCIO 2.5V/3.3 V (power), A11 VCCINT 3.3V (power), A15 VCCINT 3.3V (power), A19 NC, B2 NC, B3 NC, C3 VCCIO 2.5V/3.3 V (power), C17 NC, C18 VCCINT 3.3V (power), C19 VCCIO 2.5V/3.3 V (power), D8 VCCINT 3.3V (power), D11 VCCIO 2.5V/3.3 V (power), D12 VCCIO 2.5V/3.3 V (power), D13 TDO (out), D14 VCCIO 2.5V/3.3 V (power), D19 VCCINT 3.3V (power), E1 VCCINT 3.3V (power), E5 GND (power), E6 GND (power), E7 GND (power), E8 GND (power), E9 GND (power), E10 GND (power), E11 GND (power), E12 GND (power), E13 GND (power), E14 GND (power), E15 GND (power), F1 VCCIO 2.5V/3.3 V (power), F2 VCCINT 3.3V (power), F5 GND (power), F15 GND (power), G5 GND (power), G15 GND (power), G17 VCCIO 2.5V/3.3 V (power), G18 VCCINT 3.3V (power), H5 GND (power), H15 GND (power), J5 GND (power), J15 GND (power), K1 VCCIO 2.5V/3.3 V (power), K5 GND (power), K15 GND (power), K19 VCCIO 2.5V/3.3 V (power), L5 GND (power), L15 GND (power), M5 GND (power), M15 GND (power), M18 VCCINT 3.3V (power), N3 VCCINT 3.3V (power), N4 VCCIO 2.5V/3.3 V (power), N5 GND (power), N15 GND (power), P5 GND (power), P15 GND (power), P18 VCCIO 2.5V/3.3 V (power), R5 GND (power), R6 GND (power), R7 GND (power), R8 GND (power), R9 GND (power), R10 GND (power), R11 GND (power), R12 GND (power), R13 GND (power), R14 GND (power), R15 GND (power), R17 VCCINT 3.3V (power), T6 VCCIO 2.5V/3.3 V (power), T10 VCCIO 2.5V/3.3 V (power), T15 TCK (in), U3 NC, U5 VCCINT 3.3V (power), U12 VCCINT 3.3V (power), U14 TDI (in), U15 TMS (in), U17 NC, V2 VCCIO 2.5V/3.3 V (power), V9 VCCINT 3.3V (power), V14 VCCIO 2.5V/3.3 V (power), V16 VCCINT 3.3V (power), V18 VCCIO 2.5V/3.3 V (power), W1 NC, W9 VCCINT 3.3V (power), W19 NC
part A text: Block 8; Block 7; Block 1; Block 6; Block 2; Block 5; Block 3; Block 4
part B text: Block 16; Block 15; Block 9; Block 14; Block 10; Block 13; Block 11; Block 12

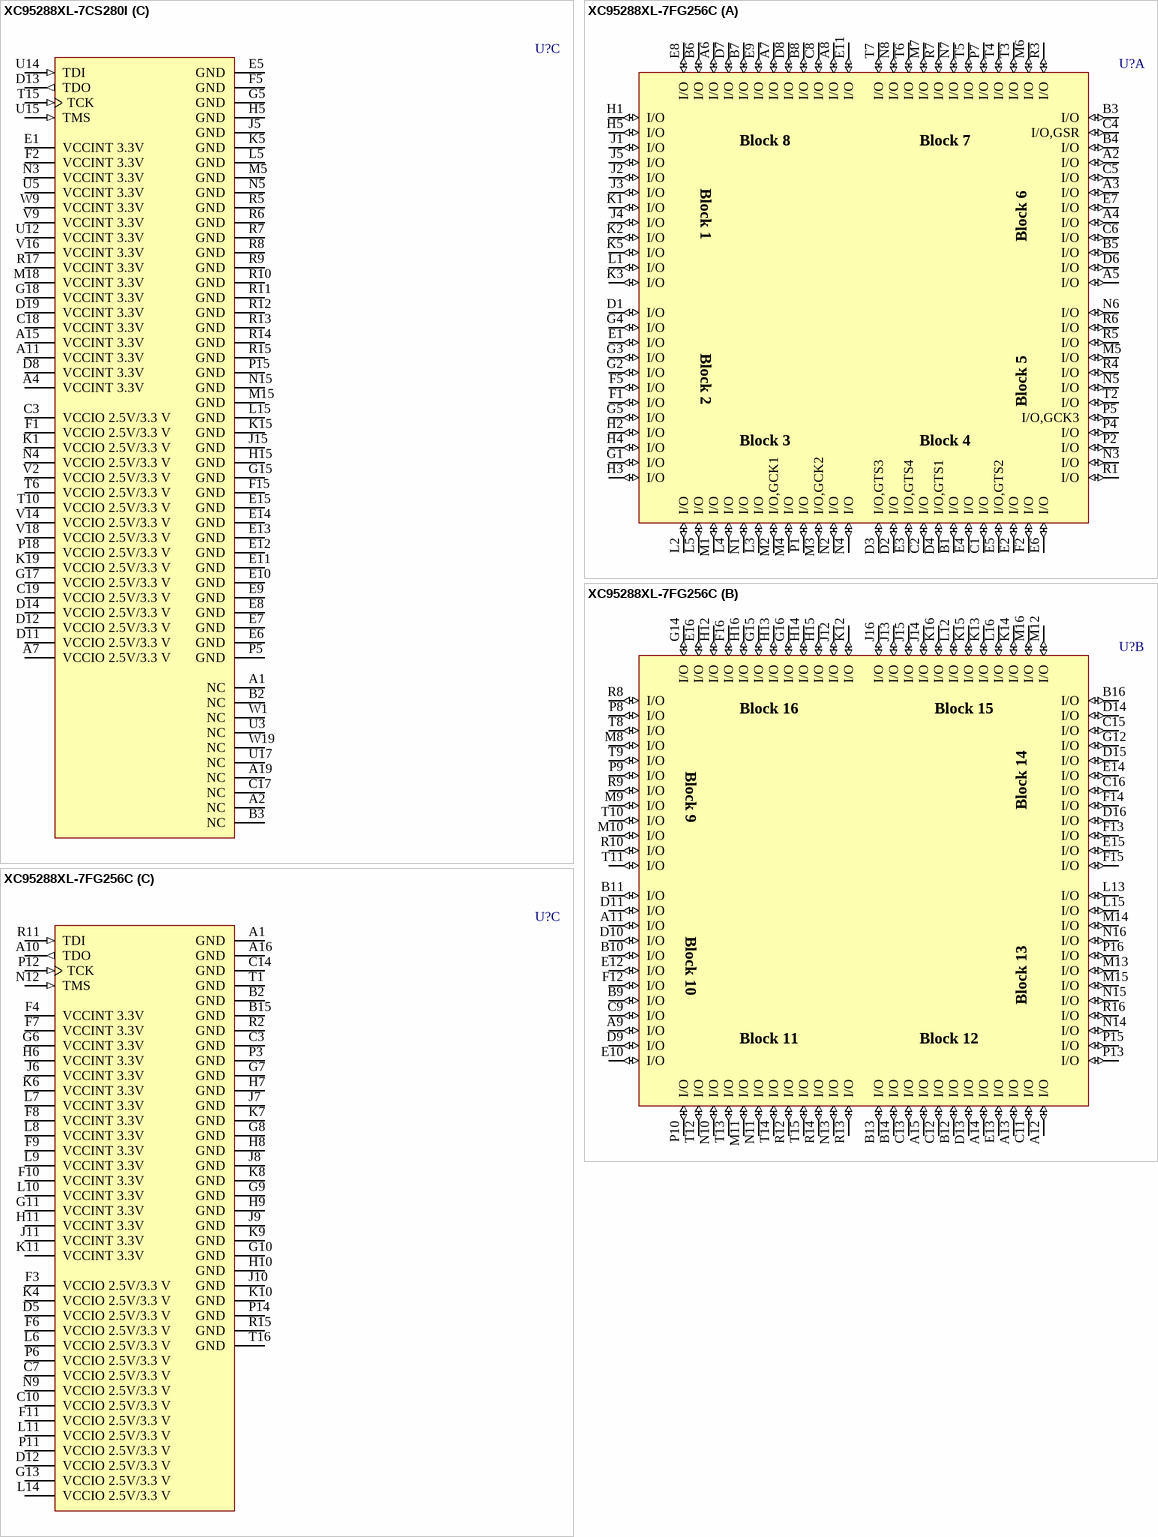
[diagram p22: symbols XC95288XL-7CS280I to XC95288XL-7FG256C]

## XC95288XL-7CS280I
designator U?
FastFLASH XC900XL, 3.3V High-Performance CPLD with 288 Macrocells, 280-Ball CSBGA, Industrial Grade; PackageDocument: ver1.0, Jun-2000; Published: 17-Sep-2003; DatasheetDocument: ver1.7, Aug-2003; PackageReference: CS280; Publisher: Altium Limited; Code_JEDEC: MO-216-BAL-1 (Depopulated)
footprint CS280 (280-Ball Chip Scale Ball Grid Array (CS280))
3D model XC95288XL-CS280 (280-Ball Chip Scale Ball Grid Array (CS280))
signal-integrity model XC95288XL_CS280 (XC9500XL)
part A pins: A3 I/O (io), A5 I/O (io), A6 I/O (io), A8 I/O (io), A9 I/O (io), B1 I/O (io), B4 I/O (io), B5 I/O (io), B6 I/O (io), B7 I/O (io), B8 I/O (io), B9 I/O (io), B10 I/O (io), C1 I/O,GTS4 (io), C2 I/O,GTS3 (io), C4 I/O,GSR (io), C5 I/O (io), C6 I/O (io), C7 I/O (io), C8 I/O (io), C9 I/O (io), C10 I/O (io), D1 I/O (io), D2 I/O (io), D3 I/O,GTS1 (io), D4 I/O (io), D5 I/O (io), D6 I/O (io), D7 I/O (io), D9 I/O (io), D10 I/O (io), E2 I/O,GTS2 (io), E3 I/O (io), E4 I/O (io), F3 I/O (io), F4 I/O (io), G1 I/O (io), G2 I/O (io), G3 I/O (io), G4 I/O (io), H1 I/O (io), H2 I/O (io), H3 I/O (io), H4 I/O (io), J1 I/O (io), J2 I/O (io), J3 I/O (io), J4 I/O (io), K2 I/O (io), K3 I/O (io), K4 I/O (io), L1 I/O (io), L2 I/O (io), L3 I/O (io), L4 I/O (io), M1 I/O (io), M2 I/O (io), M3 I/O (io), M4 I/O (io), N1 I/O (io), N2 I/O (io), P1 I/O (io), P2 I/O (io), P3 I/O (io), P4 I/O (io), R1 I/O (io), R2 I/O (io), R3 I/O,GCK1 (io), R4 I/O (io), T1 I/O,GCK2 (io), T2 I/O (io), T3 I/O (io), T4 I/O (io), T5 I/O (io), T7 I/O (io), T8 I/O (io), U1 I/O (io), U2 I/O (io), U4 I/O (io), U6 I/O (io), U7 I/O (io), U8 I/O (io), V1 I/O (io), V3 I/O (io), V4 I/O (io), V5 I/O (io), V6 I/O (io), V7 I/O (io), V8 I/O (io), W2 I/O,GCK3 (io), W3 I/O (io), W4 I/O (io), W5 I/O (io), W6 I/O (io), W7 I/O (io), W8 I/O (io)
part B pins: A10 I/O (io), A12 I/O (io), A13 I/O (io), A14 I/O (io), A16 I/O (io), A17 I/O (io), A18 I/O (io), B11 I/O (io), B12 I/O (io), B13 I/O (io), B14 I/O (io), B15 I/O (io), B16 I/O (io), B17 I/O (io), B18 I/O (io), B19 I/O (io), C11 I/O (io), C12 I/O (io), C13 I/O (io), C14 I/O (io), C15 I/O (io), C16 I/O (io), D15 I/O (io), D16 I/O (io), D17 I/O (io), D18 I/O (io), E16 I/O (io), E17 I/O (io), E18 I/O (io), E19 I/O (io), F16 I/O (io), F17 I/O (io), F18 I/O (io), F19 I/O (io), G16 I/O (io), G19 I/O (io), H16 I/O (io), H17 I/O (io), H18 I/O (io), H19 I/O (io), J16 I/O (io), J17 I/O (io), J18 I/O (io), J19 I/O (io), K16 I/O (io), K17 I/O (io), K18 I/O (io), L16 I/O (io), L17 I/O (io), L18 I/O (io), L19 I/O (io), M16 I/O (io), M17 I/O (io), M19 I/O (io), N16 I/O (io), N17 I/O (io), N18 I/O (io), N19 I/O (io), P16 I/O (io), P17 I/O (io), P19 I/O (io), R16 I/O (io), R18 I/O (io), R19 I/O (io), T9 I/O (io), T11 I/O (io), T12 I/O (io), T13 I/O (io), T14 I/O (io), T16 I/O (io), T17 I/O (io), T18 I/O (io), T19 I/O (io), U9 I/O (io), U10 I/O (io), U11 I/O (io), U13 I/O (io), U16 I/O (io), U18 I/O (io), U19 I/O (io), V10 I/O (io), V11 I/O (io), V12 I/O (io), V13 I/O (io), V15 I/O (io), V17 I/O (io), V19 I/O (io), W10 I/O (io), W11 I/O (io), W12 I/O (io), W13 I/O (io), W14 I/O (io), W15 I/O (io), W16 I/O (io), W17 I/O (io), W18 I/O (io)
part C pins: A1 NC, A2 NC, A4 VCCINT 3.3V (power), A7 VCCIO 2.5V/3.3 V (power), A11 VCCINT 3.3V (power), A15 VCCINT 3.3V (power), A19 NC, B2 NC, B3 NC, C3 VCCIO 2.5V/3.3 V (power), C17 NC, C18 VCCINT 3.3V (power), C19 VCCIO 2.5V/3.3 V (power), D8 VCCINT 3.3V (power), D11 VCCIO 2.5V/3.3 V (power), D12 VCCIO 2.5V/3.3 V (power), D13 TDO (out), D14 VCCIO 2.5V/3.3 V (power), D19 VCCINT 3.3V (power), E1 VCCINT 3.3V (power), E5 GND (power), E6 GND (power), E7 GND (power), E8 GND (power), E9 GND (power), E10 GND (power), E11 GND (power), E12 GND (power), E13 GND (power), E14 GND (power), E15 GND (power), F1 VCCIO 2.5V/3.3 V (power), F2 VCCINT 3.3V (power), F5 GND (power), F15 GND (power), G5 GND (power), G15 GND (power), G17 VCCIO 2.5V/3.3 V (power), G18 VCCINT 3.3V (power), H5 GND (power), H15 GND (power), J5 GND (power), J15 GND (power), K1 VCCIO 2.5V/3.3 V (power), K5 GND (power), K15 GND (power), K19 VCCIO 2.5V/3.3 V (power), L5 GND (power), L15 GND (power), M5 GND (power), M15 GND (power), M18 VCCINT 3.3V (power), N3 VCCINT 3.3V (power), N4 VCCIO 2.5V/3.3 V (power), N5 GND (power), N15 GND (power), P5 GND (power), P15 GND (power), P18 VCCIO 2.5V/3.3 V (power), R5 GND (power), R6 GND (power), R7 GND (power), R8 GND (power), R9 GND (power), R10 GND (power), R11 GND (power), R12 GND (power), R13 GND (power), R14 GND (power), R15 GND (power), R17 VCCINT 3.3V (power), T6 VCCIO 2.5V/3.3 V (power), T10 VCCIO 2.5V/3.3 V (power), T15 TCK (in), U3 NC, U5 VCCINT 3.3V (power), U12 VCCINT 3.3V (power), U14 TDI (in), U15 TMS (in), U17 NC, V2 VCCIO 2.5V/3.3 V (power), V9 VCCINT 3.3V (power), V14 VCCIO 2.5V/3.3 V (power), V16 VCCINT 3.3V (power), V18 VCCIO 2.5V/3.3 V (power), W1 NC, W9 VCCINT 3.3V (power), W19 NC
part A text: Block 8; Block 7; Block 1; Block 6; Block 2; Block 5; Block 3; Block 4
part B text: Block 16; Block 15; Block 9; Block 14; Block 10; Block 13; Block 11; Block 12

## XC95288XL-7FG256C
designator U?
FastFLASH XC900XL, 3.3V High-Performance CPLD with 288 Macrocells, 256-Ball FBGA, Commercial Grade; PackageDocument: ver1.1, Apr-2001; Published: 17-Jul-2002; DatasheetDocument: ver1.7, Aug-2003; PackageReference: FG256; Publisher: Altium Limited; Code_JEDEC: MO-151-AAF-1; Code_IPC: PBGA 17X17 FE256
footprint FG256 (256-Ball Fine Pitch Ball Grid Array (FG256))
3D model XC95288XL-FG256 (256-Ball Fine Pitch Ball Grid Array (FG256))
signal-integrity model XC95288XL_FG256 (XC9500XL)
part A pins: A2 I/O (io), A3 I/O (io), A4 I/O (io), A5 I/O (io), A6 I/O (io), A7 I/O (io), A8 I/O (io), B1 I/O (io), B3 I/O (io), B4 I/O (io), B5 I/O (io), B6 I/O (io), B7 I/O (io), B8 I/O (io), C1 I/O (io), C2 I/O (io), C4 I/O,GSR (io), C5 I/O (io), C6 I/O (io), C8 I/O (io), D1 I/O (io), D2 I/O (io), D3 I/O,GTS3 (io), D4 I/O,GTS1 (io), D6 I/O (io), D7 I/O (io), D8 I/O (io), E1 I/O (io), E2 I/O (io), E3 I/O,GTS4 (io), E4 I/O (io), E5 I/O,GTS2 (io), E6 I/O (io), E7 I/O (io), E8 I/O (io), E9 I/O (io), E11 I/O (io), F1 I/O (io), F2 I/O (io), F5 I/O (io), G1 I/O (io), G2 I/O (io), G3 I/O (io), G4 I/O (io), G5 I/O (io), H1 I/O (io), H2 I/O (io), H3 I/O (io), H4 I/O (io), H5 I/O (io), J1 I/O (io), J2 I/O (io), J3 I/O (io), J4 I/O (io), J5 I/O (io), K1 I/O (io), K2 I/O (io), K3 I/O (io), K5 I/O (io), L1 I/O (io), L2 I/O (io), L3 I/O (io), L4 I/O (io), L5 I/O (io), M1 I/O (io), M2 I/O,GCK1 (io), M3 I/O,GCK2 (io), M4 I/O (io), M5 I/O (io), M6 I/O (io), M7 I/O (io), N1 I/O (io), N2 I/O (io), N3 I/O (io), N4 I/O (io), N5 I/O (io), N6 I/O (io), N7 I/O (io), N8 I/O (io), P1 I/O (io), P2 I/O (io), P4 I/O (io), P5 I/O,GCK3 (io), P7 I/O (io), R1 I/O (io), R3 I/O (io), R4 I/O (io), R5 I/O (io), R6 I/O (io), R7 I/O (io), T2 I/O (io), T3 I/O (io), T4 I/O (io), T5 I/O (io), T6 I/O (io), T7 I/O (io)
part B pins: A9 I/O (io), A11 I/O (io), A12 I/O (io), A13 I/O (io), A14 I/O (io), A15 I/O (io), B9 I/O (io), B10 I/O (io), B11 I/O (io), B12 I/O (io), B13 I/O (io), B14 I/O (io), B16 I/O (io), C9 I/O (io), C11 I/O (io), C12 I/O (io), C13 I/O (io), C15 I/O (io), C16 I/O (io), D9 I/O (io), D10 I/O (io), D11 I/O (io), D13 I/O (io), D14 I/O (io), D15 I/O (io), D16 I/O (io), E10 I/O (io), E12 I/O (io), E13 I/O (io), E14 I/O (io), E15 I/O (io), E16 I/O (io), F12 I/O (io), F13 I/O (io), F14 I/O (io), F15 I/O (io), F16 I/O (io), G12 I/O (io), G14 I/O (io), G15 I/O (io), G16 I/O (io), H12 I/O (io), H13 I/O (io), H14 I/O (io), H15 I/O (io), H16 I/O (io), J12 I/O (io), J13 I/O (io), J14 I/O (io), J15 I/O (io), J16 I/O (io), K12 I/O (io), K13 I/O (io), K14 I/O (io), K15 I/O (io), K16 I/O (io), L12 I/O (io), L13 I/O (io), L15 I/O (io), L16 I/O (io), M8 I/O (io), M9 I/O (io), M10 I/O (io), M11 I/O (io), M12 I/O (io), M13 I/O (io), M14 I/O (io), M15 I/O (io), M16 I/O (io), N10 I/O (io), N11 I/O (io), N13 I/O (io), N14 I/O (io), N15 I/O (io), N16 I/O (io), P8 I/O (io), P9 I/O (io), P10 I/O (io), P13 I/O (io), P15 I/O (io), P16 I/O (io), R8 I/O (io), R9 I/O (io), R10 I/O (io), R12 I/O (io), R13 I/O (io), R14 I/O (io), R16 I/O (io), T8 I/O (io), T9 I/O (io), T10 I/O (io), T11 I/O (io), T12 I/O (io), T13 I/O (io), T14 I/O (io), T15 I/O (io)
part C pins: A1 GND (power), A10 TDO (out), A16 GND (power), B2 GND (power), B15 GND (power), C3 GND (power), C7 VCCIO 2.5V/3.3 V (power), C10 VCCIO 2.5V/3.3 V (power), C14 GND (power), D5 VCCIO 2.5V/3.3 V (power), D12 VCCIO 2.5V/3.3 V (power), F3 VCCIO 2.5V/3.3 V (power), F4 VCCINT 3.3V (power), F6 VCCIO 2.5V/3.3 V (power), F7 VCCINT 3.3V (power), F8 VCCINT 3.3V (power), F9 VCCINT 3.3V (power), F10 VCCINT 3.3V (power), F11 VCCIO 2.5V/3.3 V (power), G6 VCCINT 3.3V (power), G7 GND (power), G8 GND (power), G9 GND (power), G10 GND (power), G11 VCCINT 3.3V (power), G13 VCCIO 2.5V/3.3 V (power), H6 VCCINT 3.3V (power), H7 GND (power), H8 GND (power), H9 GND (power), H10 GND (power), H11 VCCINT 3.3V (power), J6 VCCINT 3.3V (power), J7 GND (power), J8 GND (power), J9 GND (power), J10 GND (power), J11 VCCINT 3.3V (power), K4 VCCIO 2.5V/3.3 V (power), K6 VCCINT 3.3V (power), K7 GND (power), K8 GND (power), K9 GND (power), K10 GND (power), K11 VCCINT 3.3V (power), L6 VCCIO 2.5V/3.3 V (power), L7 VCCINT 3.3V (power), L8 VCCINT 3.3V (power), L9 VCCINT 3.3V (power), L10 VCCINT 3.3V (power), L11 VCCIO 2.5V/3.3 V (power), L14 VCCIO 2.5V/3.3 V (power), N9 VCCIO 2.5V/3.3 V (power), N12 TMS (in), P3 GND (power), P6 VCCIO 2.5V/3.3 V (power), P11 VCCIO 2.5V/3.3 V (power), P12 TCK (in), P14 GND (power), R2 GND (power), R11 TDI (in), R15 GND (power), T1 GND (power), T16 GND (power)
part A text: Block 8; Block 7; Block 1; Block 6; Block 2; Block 5; Block 3; Block 4
part B text: Block 16; Block 15; Block 9; Block 14; Block 10; Block 13; Block 11; Block 12

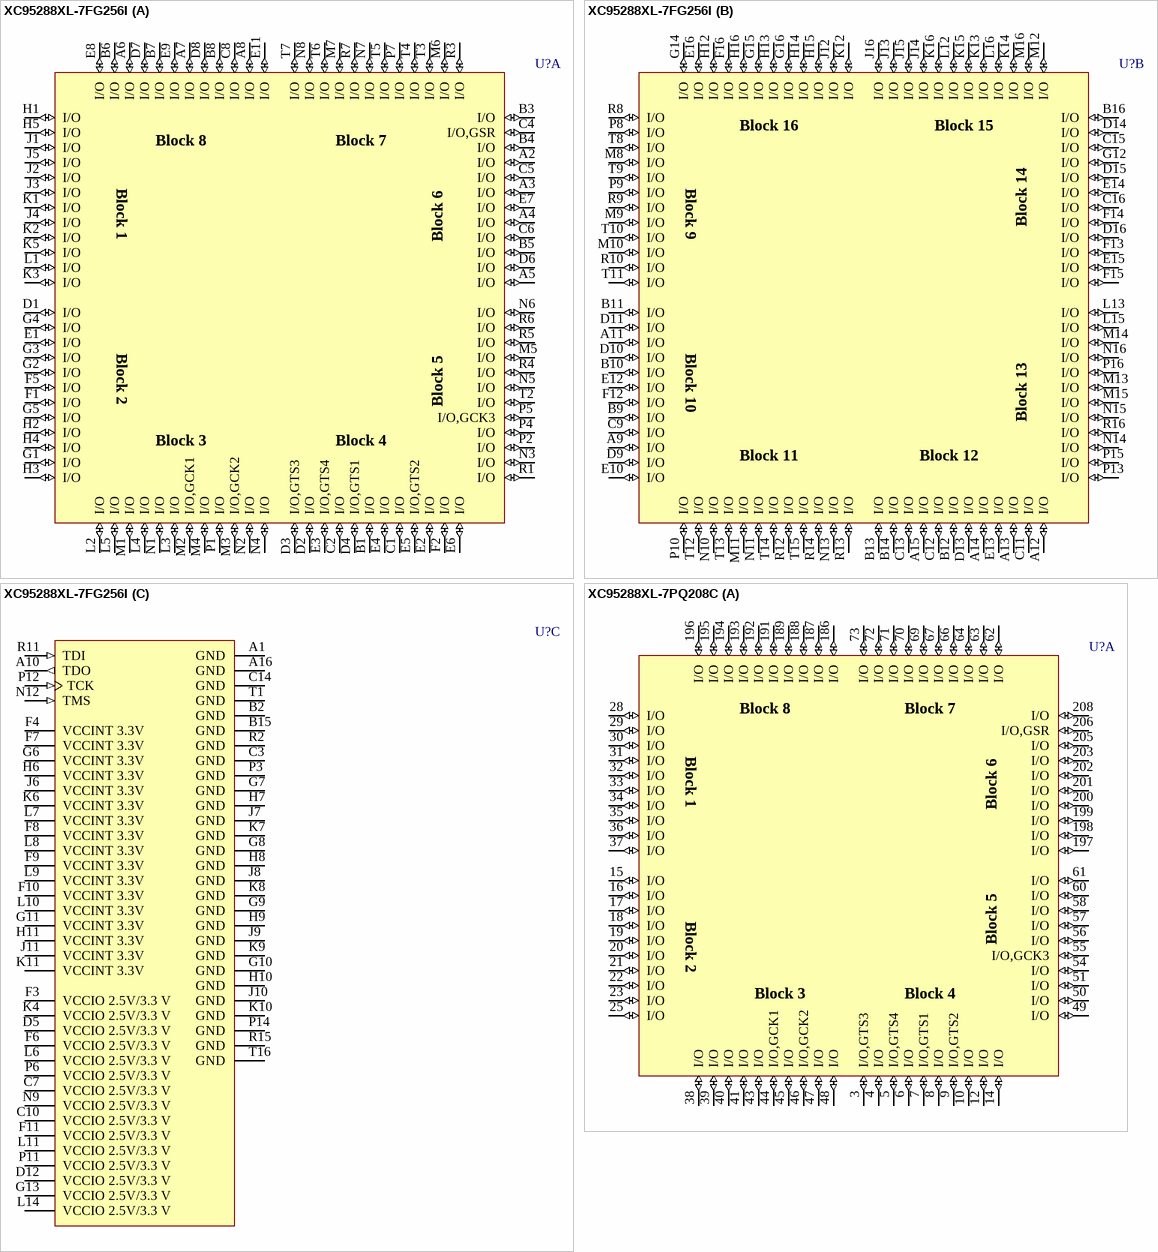
[diagram p23: symbols XC95288XL-7FG256I to XC95288XL-7PQ208C]

## XC95288XL-7FG256I
designator U?
FastFLASH XC900XL, 3.3V High-Performance CPLD with 288 Macrocells, 256-Ball FBGA, Industrial Grade; PackageDocument: ver1.1, Apr-2001; Published: 17-Sep-2003; DatasheetDocument: ver1.7, Aug-2003; PackageReference: FG256; Publisher: Altium Limited; Code_JEDEC: MO-151-AAF-1; Code_IPC: PBGA 17X17 FE256
footprint FG256 (256-Ball Fine Pitch Ball Grid Array (FG256))
3D model XC95288XL-FG256 (256-Ball Fine Pitch Ball Grid Array (FG256))
signal-integrity model XC95288XL_FG256 (XC9500XL)
part A pins: A2 I/O (io), A3 I/O (io), A4 I/O (io), A5 I/O (io), A6 I/O (io), A7 I/O (io), A8 I/O (io), B1 I/O (io), B3 I/O (io), B4 I/O (io), B5 I/O (io), B6 I/O (io), B7 I/O (io), B8 I/O (io), C1 I/O (io), C2 I/O (io), C4 I/O,GSR (io), C5 I/O (io), C6 I/O (io), C8 I/O (io), D1 I/O (io), D2 I/O (io), D3 I/O,GTS3 (io), D4 I/O,GTS1 (io), D6 I/O (io), D7 I/O (io), D8 I/O (io), E1 I/O (io), E2 I/O (io), E3 I/O,GTS4 (io), E4 I/O (io), E5 I/O,GTS2 (io), E6 I/O (io), E7 I/O (io), E8 I/O (io), E9 I/O (io), E11 I/O (io), F1 I/O (io), F2 I/O (io), F5 I/O (io), G1 I/O (io), G2 I/O (io), G3 I/O (io), G4 I/O (io), G5 I/O (io), H1 I/O (io), H2 I/O (io), H3 I/O (io), H4 I/O (io), H5 I/O (io), J1 I/O (io), J2 I/O (io), J3 I/O (io), J4 I/O (io), J5 I/O (io), K1 I/O (io), K2 I/O (io), K3 I/O (io), K5 I/O (io), L1 I/O (io), L2 I/O (io), L3 I/O (io), L4 I/O (io), L5 I/O (io), M1 I/O (io), M2 I/O,GCK1 (io), M3 I/O,GCK2 (io), M4 I/O (io), M5 I/O (io), M6 I/O (io), M7 I/O (io), N1 I/O (io), N2 I/O (io), N3 I/O (io), N4 I/O (io), N5 I/O (io), N6 I/O (io), N7 I/O (io), N8 I/O (io), P1 I/O (io), P2 I/O (io), P4 I/O (io), P5 I/O,GCK3 (io), P7 I/O (io), R1 I/O (io), R3 I/O (io), R4 I/O (io), R5 I/O (io), R6 I/O (io), R7 I/O (io), T2 I/O (io), T3 I/O (io), T4 I/O (io), T5 I/O (io), T6 I/O (io), T7 I/O (io)
part B pins: A9 I/O (io), A11 I/O (io), A12 I/O (io), A13 I/O (io), A14 I/O (io), A15 I/O (io), B9 I/O (io), B10 I/O (io), B11 I/O (io), B12 I/O (io), B13 I/O (io), B14 I/O (io), B16 I/O (io), C9 I/O (io), C11 I/O (io), C12 I/O (io), C13 I/O (io), C15 I/O (io), C16 I/O (io), D9 I/O (io), D10 I/O (io), D11 I/O (io), D13 I/O (io), D14 I/O (io), D15 I/O (io), D16 I/O (io), E10 I/O (io), E12 I/O (io), E13 I/O (io), E14 I/O (io), E15 I/O (io), E16 I/O (io), F12 I/O (io), F13 I/O (io), F14 I/O (io), F15 I/O (io), F16 I/O (io), G12 I/O (io), G14 I/O (io), G15 I/O (io), G16 I/O (io), H12 I/O (io), H13 I/O (io), H14 I/O (io), H15 I/O (io), H16 I/O (io), J12 I/O (io), J13 I/O (io), J14 I/O (io), J15 I/O (io), J16 I/O (io), K12 I/O (io), K13 I/O (io), K14 I/O (io), K15 I/O (io), K16 I/O (io), L12 I/O (io), L13 I/O (io), L15 I/O (io), L16 I/O (io), M8 I/O (io), M9 I/O (io), M10 I/O (io), M11 I/O (io), M12 I/O (io), M13 I/O (io), M14 I/O (io), M15 I/O (io), M16 I/O (io), N10 I/O (io), N11 I/O (io), N13 I/O (io), N14 I/O (io), N15 I/O (io), N16 I/O (io), P8 I/O (io), P9 I/O (io), P10 I/O (io), P13 I/O (io), P15 I/O (io), P16 I/O (io), R8 I/O (io), R9 I/O (io), R10 I/O (io), R12 I/O (io), R13 I/O (io), R14 I/O (io), R16 I/O (io), T8 I/O (io), T9 I/O (io), T10 I/O (io), T11 I/O (io), T12 I/O (io), T13 I/O (io), T14 I/O (io), T15 I/O (io)
part C pins: A1 GND (power), A10 TDO (out), A16 GND (power), B2 GND (power), B15 GND (power), C3 GND (power), C7 VCCIO 2.5V/3.3 V (power), C10 VCCIO 2.5V/3.3 V (power), C14 GND (power), D5 VCCIO 2.5V/3.3 V (power), D12 VCCIO 2.5V/3.3 V (power), F3 VCCIO 2.5V/3.3 V (power), F4 VCCINT 3.3V (power), F6 VCCIO 2.5V/3.3 V (power), F7 VCCINT 3.3V (power), F8 VCCINT 3.3V (power), F9 VCCINT 3.3V (power), F10 VCCINT 3.3V (power), F11 VCCIO 2.5V/3.3 V (power), G6 VCCINT 3.3V (power), G7 GND (power), G8 GND (power), G9 GND (power), G10 GND (power), G11 VCCINT 3.3V (power), G13 VCCIO 2.5V/3.3 V (power), H6 VCCINT 3.3V (power), H7 GND (power), H8 GND (power), H9 GND (power), H10 GND (power), H11 VCCINT 3.3V (power), J6 VCCINT 3.3V (power), J7 GND (power), J8 GND (power), J9 GND (power), J10 GND (power), J11 VCCINT 3.3V (power), K4 VCCIO 2.5V/3.3 V (power), K6 VCCINT 3.3V (power), K7 GND (power), K8 GND (power), K9 GND (power), K10 GND (power), K11 VCCINT 3.3V (power), L6 VCCIO 2.5V/3.3 V (power), L7 VCCINT 3.3V (power), L8 VCCINT 3.3V (power), L9 VCCINT 3.3V (power), L10 VCCINT 3.3V (power), L11 VCCIO 2.5V/3.3 V (power), L14 VCCIO 2.5V/3.3 V (power), N9 VCCIO 2.5V/3.3 V (power), N12 TMS (in), P3 GND (power), P6 VCCIO 2.5V/3.3 V (power), P11 VCCIO 2.5V/3.3 V (power), P12 TCK (in), P14 GND (power), R2 GND (power), R11 TDI (in), R15 GND (power), T1 GND (power), T16 GND (power)
part A text: Block 8; Block 7; Block 1; Block 6; Block 2; Block 5; Block 3; Block 4
part B text: Block 16; Block 15; Block 9; Block 14; Block 10; Block 13; Block 11; Block 12

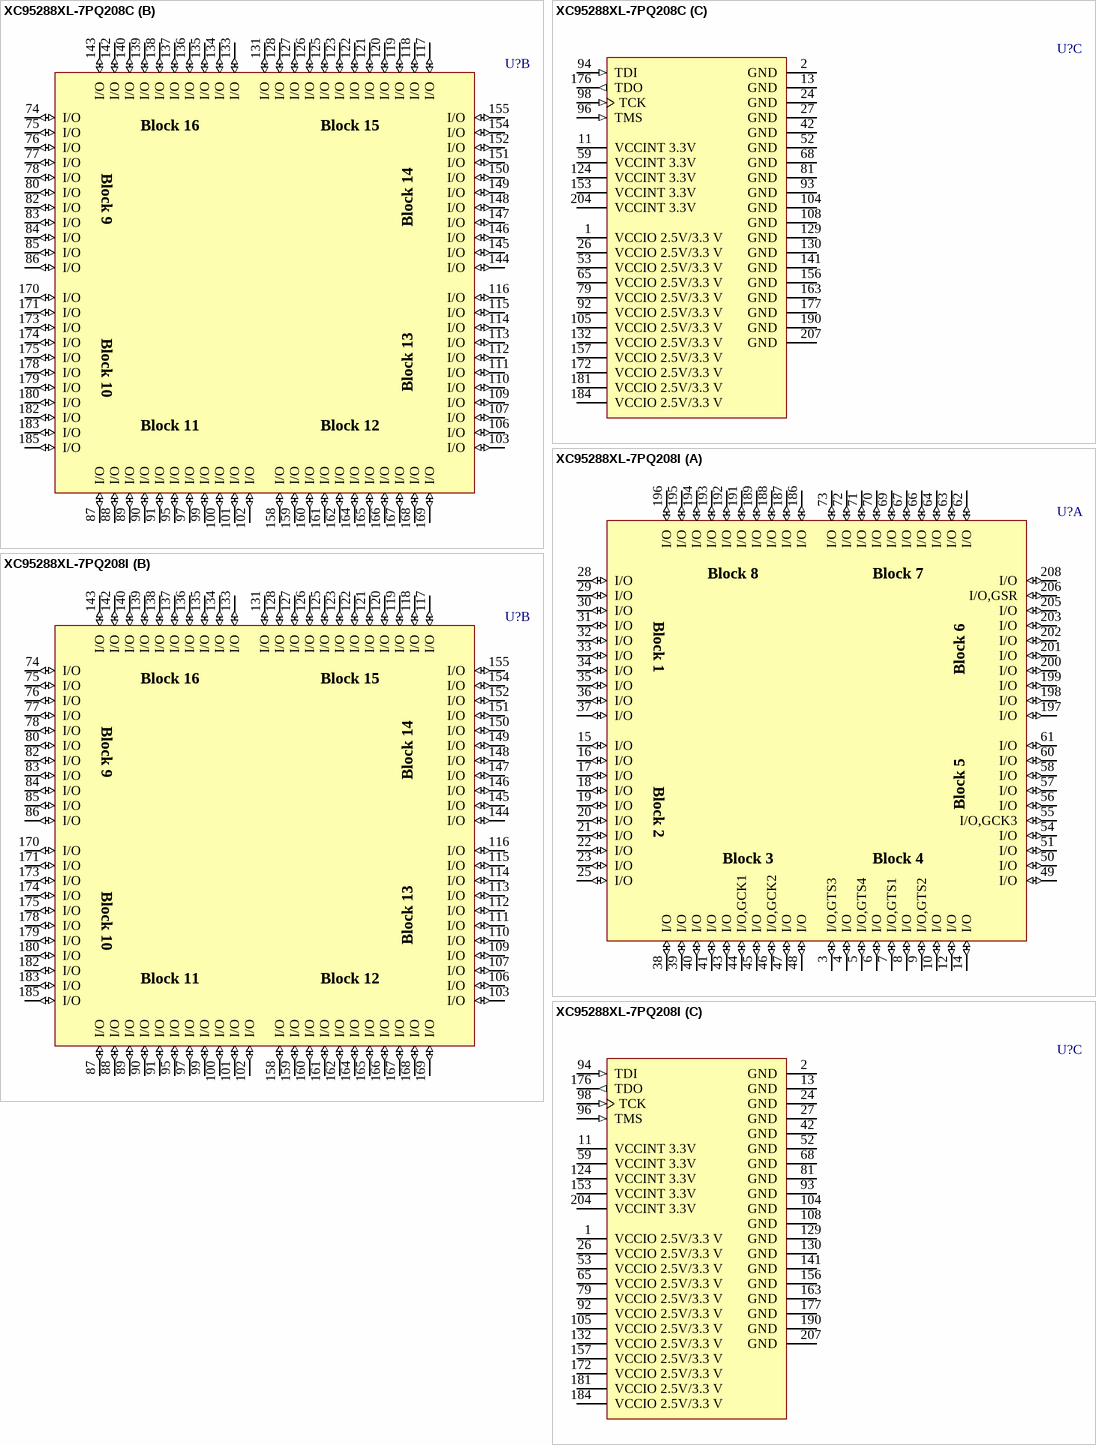
[diagram p24: symbols XC95288XL-7PQ208C to XC95288XL-7PQ208I]